# Altium integrated library Xilinx Spartan-II.IntLib: 120 symbols (part 4 of 14)
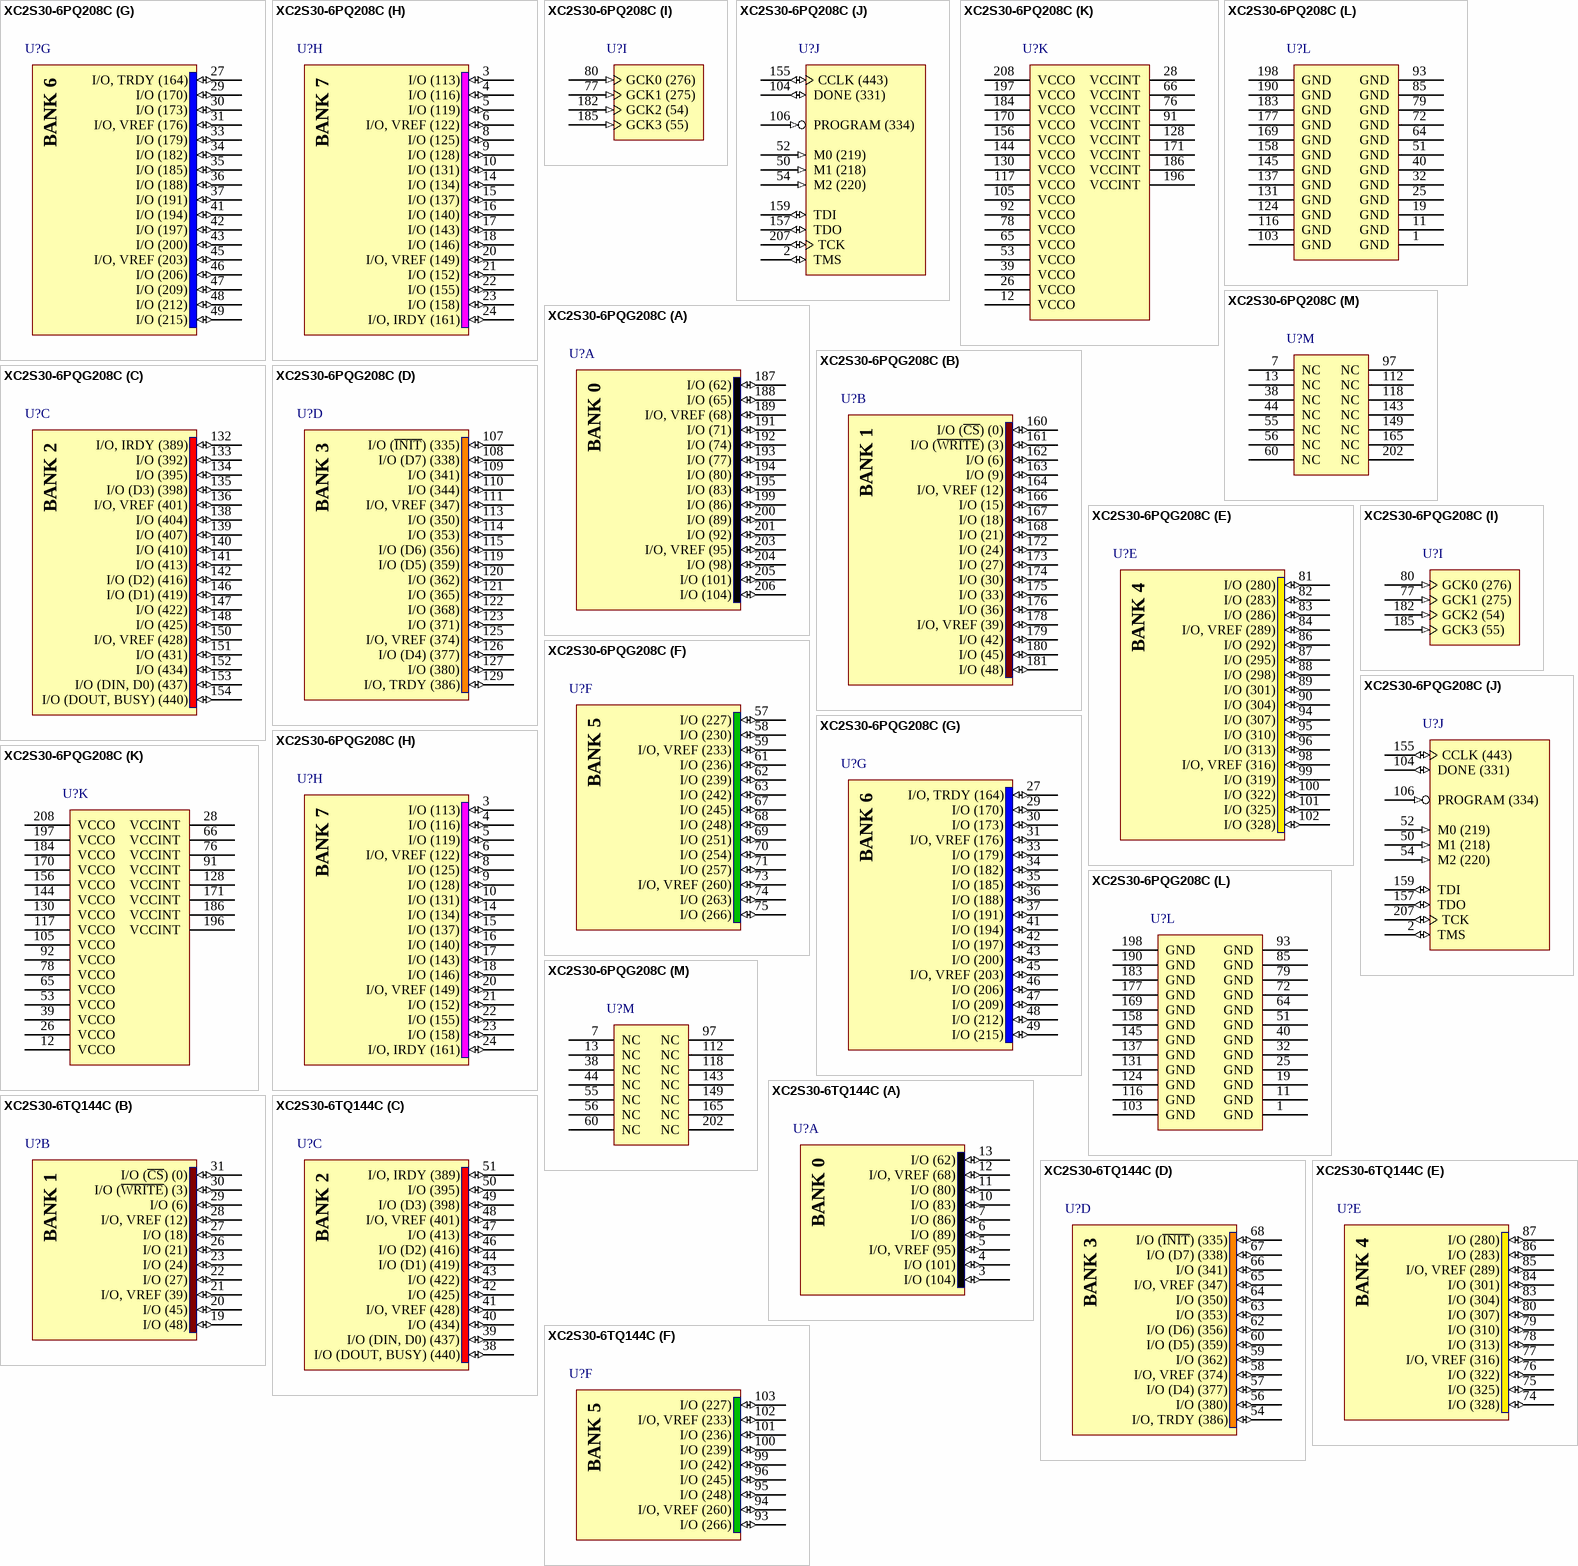
[diagram p73: symbols XC2S30-6PQ208C to XC2S30-6TQ144C]

## XC2S30-6PQG208C
designator U?
Spartan-II 2.5V FPGA, 208-Pin PQFP, Higher Performance, Commercial Grade, Pb-Free; Published: 2-Mar-2006; DatasheetVersion: Aug-2004; PackageVersion: ver1.2, Jun-2004; PackageReference: PQG208; Publisher: Altium Limited; PackageDescription: 208-Pin Plastic Quad Flat Pack (PQG208) - Pb-Free; Code_JEDEC: MS-029-FA-1; ComponentLink1Description: Manufacturer Link; ComponentLink1URL: http://www.xilinx.com/products/silicon_solutions/fpgas/spartan_series/spartan2_fpgas/index.htm; ComponentLink2Description: Datasheet; ComponentLink2URL: http://direct.xilinx.com/bvdocs/publications/ds001.pdf
footprint PQG208_N (Shrink QFP, 208-Leads, Body 28x28mm, Pitch 0.5mm, IPC Medium Density)
footprint PQG208_L (Shrink QFP, 208-Leads, Body 28x28mm, Pitch 0.5mm, IPC High Density)
footprint PQG208_M (Shrink QFP, 208-Leads, Body 28x28mm, Pitch 0.5mm, IPC Low Density)
3D model XC2S30-PQ208 (208-Pin Plastic Quad Flat Pack (PQG208) - Pb-Free)
signal-integrity model XC2S30_PQG208 (Spartan-II)
part A pins: 187 I/O (62) (io), 188 I/O (65) (io), 189 I/O, VREF (68) (io), 191 I/O (71) (io), 192 I/O (74) (io), 193 I/O (77) (io), 194 I/O (80) (io), 195 I/O (83) (io), 199 I/O (86) (io), 200 I/O (89) (io), 201 I/O (92) (io), 203 I/O, VREF (95) (io), 204 I/O (98) (io), 205 I/O (101) (io), 206 I/O (104) (io)
part B pins: 160 I/O (~{CS}) (0) (io), 161 I/O (~{WRITE}) (3) (io), 162 I/O (6) (io), 163 I/O (9) (io), 164 I/O, VREF (12) (io), 166 I/O (15) (io), 167 I/O (18) (io), 168 I/O (21) (io), 172 I/O (24) (io), 173 I/O (27) (io), 174 I/O (30) (io), 175 I/O (33) (io), 176 I/O (36) (io), 178 I/O, VREF (39) (io), 179 I/O (42) (io), 180 I/O (45) (io), 181 I/O (48) (io)
part C pins: 132 I/O, IRDY (389) (io), 133 I/O (392) (io), 134 I/O (395) (io), 135 I/O (D3) (398) (io), 136 I/O, VREF (401) (io), 138 I/O (404) (io), 139 I/O (407) (io), 140 I/O (410) (io), 141 I/O (413) (io), 142 I/O (D2) (416) (io), 146 I/O (D1) (419) (io), 147 I/O (422) (io), 148 I/O (425) (io), 150 I/O, VREF (428) (io), 151 I/O (431) (io), 152 I/O (434) (io), 153 I/O (DIN, D0) (437) (io), 154 I/O (DOUT, BUSY) (440) (io)
part D pins: 107 I/O (~{INIT}) (335) (io), 108 I/O (D7) (338) (io), 109 I/O (341) (io), 110 I/O (344) (io), 111 I/O, VREF (347) (io), 113 I/O (350) (io), 114 I/O (353) (io), 115 I/O (D6) (356) (io), 119 I/O (D5) (359) (io), 120 I/O (362) (io), 121 I/O (365) (io), 122 I/O (368) (io), 123 I/O (371) (io), 125 I/O, VREF (374) (io), 126 I/O (D4) (377) (io), 127 I/O (380) (io), 129 I/O, TRDY (386) (io)
part E pins: 81 I/O (280) (io), 82 I/O (283) (io), 83 I/O (286) (io), 84 I/O, VREF (289) (io), 86 I/O (292) (io), 87 I/O (295) (io), 88 I/O (298) (io), 89 I/O (301) (io), 90 I/O (304) (io), 94 I/O (307) (io), 95 I/O (310) (io), 96 I/O (313) (io), 98 I/O, VREF (316) (io), 99 I/O (319) (io), 100 I/O (322) (io), 101 I/O (325) (io), 102 I/O (328) (io)
part F pins: 57 I/O (227) (io), 58 I/O (230) (io), 59 I/O, VREF (233) (io), 61 I/O (236) (io), 62 I/O (239) (io), 63 I/O (242) (io), 67 I/O (245) (io), 68 I/O (248) (io), 69 I/O (251) (io), 70 I/O (254) (io), 71 I/O (257) (io), 73 I/O, VREF (260) (io), 74 I/O (263) (io), 75 I/O (266) (io)
part G pins: 27 I/O, TRDY (164) (io), 29 I/O (170) (io), 30 I/O (173) (io), 31 I/O, VREF (176) (io), 33 I/O (179) (io), 34 I/O (182) (io), 35 I/O (185) (io), 36 I/O (188) (io), 37 I/O (191) (io), 41 I/O (194) (io), 42 I/O (197) (io), 43 I/O (200) (io), 45 I/O, VREF (203) (io), 46 I/O (206) (io), 47 I/O (209) (io), 48 I/O (212) (io), 49 I/O (215) (io)
part H pins: 3 I/O (113) (io), 4 I/O (116) (io), 5 I/O (119) (io), 6 I/O, VREF (122) (io), 8 I/O (125) (io), 9 I/O (128) (io), 10 I/O (131) (io), 14 I/O (134) (io), 15 I/O (137) (io), 16 I/O (140) (io), 17 I/O (143) (io), 18 I/O (146) (io), 20 I/O, VREF (149) (io), 21 I/O (152) (io), 22 I/O (155) (io), 23 I/O (158) (io), 24 I/O, IRDY (161) (io)
part I pins: 77 GCK1 (275) (in), 80 GCK0 (276) (in), 182 GCK2 (54) (in), 185 GCK3 (55) (in)
part J pins: 2 TMS (io), 50 M1 (218) (in), 52 M0 (219) (in), 54 M2 (220) (in), 104 DONE (331) (io), 106 PROGRAM (334) (in), 155 CCLK (443) (io), 157 TDO (io), 159 TDI (io), 207 TCK (io)
part K pins: 12 VCCO (power), 26 VCCO (power), 28 VCCINT (power), 39 VCCO (power), 53 VCCO (power), 65 VCCO (power), 66 VCCINT (power), 76 VCCINT (power), 78 VCCO (power), 91 VCCINT (power), 92 VCCO (power), 105 VCCO (power), 117 VCCO (power), 128 VCCINT (power), 130 VCCO (power), 144 VCCO (power), 156 VCCO (power), 170 VCCO (power), 171 VCCINT (power), 184 VCCO (power), 186 VCCINT (power), 196 VCCINT (power), 197 VCCO (power), 208 VCCO (power)
part L pins: 1 GND (power), 11 GND (power), 19 GND (power), 25 GND (power), 32 GND (power), 40 GND (power), 51 GND (power), 64 GND (power), 72 GND (power), 79 GND (power), 85 GND (power), 93 GND (power), 103 GND (power), 116 GND (power), 124 GND (power), 131 GND (power), 137 GND (power), 145 GND (power), 158 GND (power), 169 GND (power), 177 GND (power), 183 GND (power), 190 GND (power), 198 GND (power)
part M pins: 7 NC, 13 NC, 38 NC, 44 NC, 55 NC, 56 NC, 60 NC, 97 NC, 112 NC, 118 NC, 143 NC, 149 NC, 165 NC, 202 NC
part A text: BANK 0
part B text: BANK 1
part C text: BANK 2
part D text: BANK 3
part E text: BANK 4
part F text: BANK 5
part G text: BANK 6
part H text: BANK 7

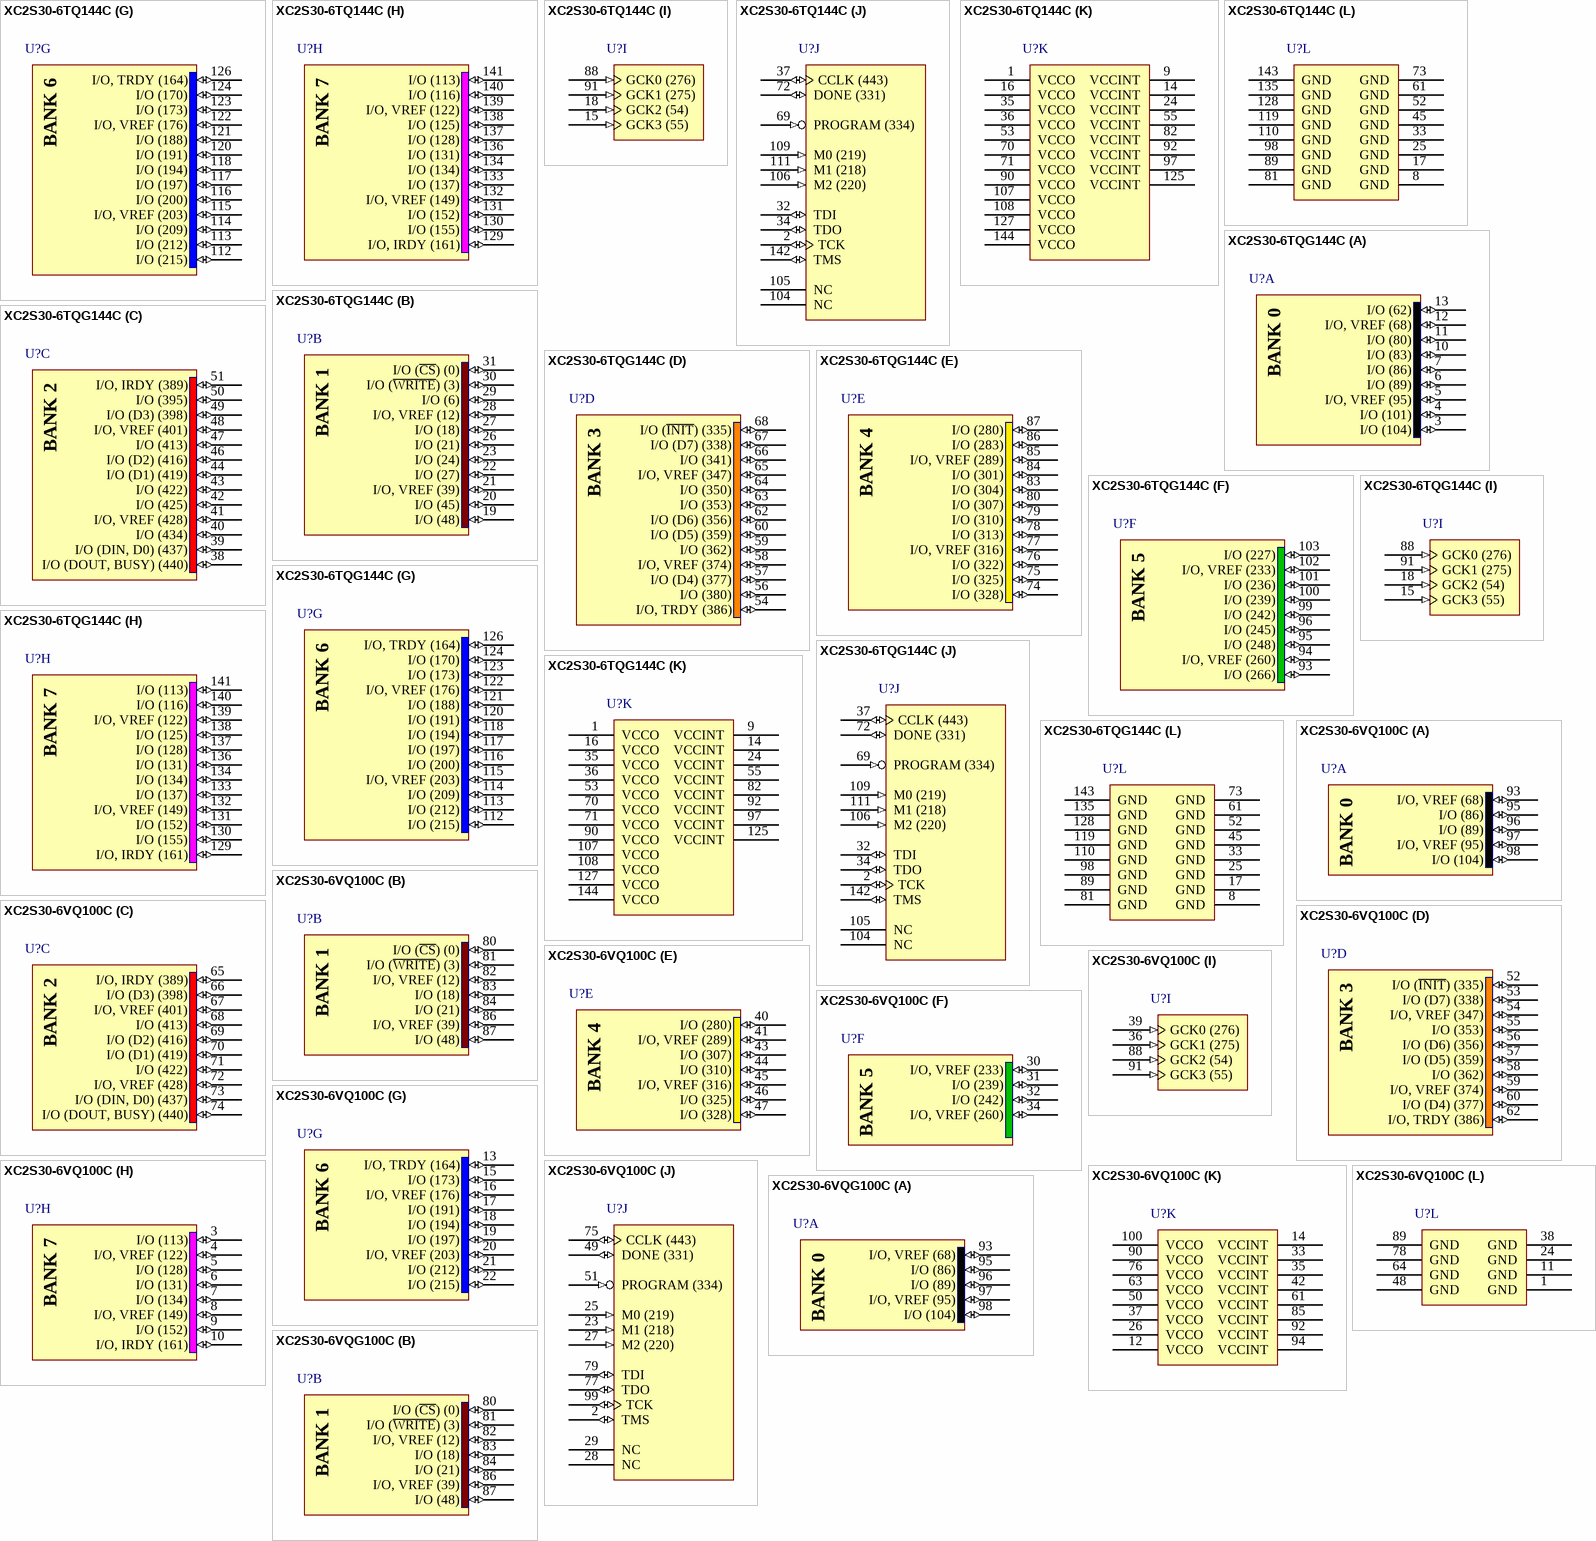
[diagram p16: symbols XC2S30-6TQ144C to XC2S30-6VQG100C]

## XC2S30-6TQ144C
designator U?
Spartan-II 2.5V FPGA, 144-Pin TQFP, Higher Performance, Commercial Grade; Published: 13-Jul-2001; LatestRevisionDate: 13-Apr-2006; LatestRevisionNote: IPC-7351 Footprint Added.; DatasheetVersion: Aug-2004; PackageVersion: ver1.2, Jun-2004; PackageReference: TQ144; Publisher: Altium Limited; PackageDescription: 144-Pin Thin Quad Flat Pack (TQ144); Code_JEDEC: MS-026-BFB; ComponentLink1Description: Manufacturer Link; ComponentLink1URL: http://www.xilinx.com/products/silicon_solutions/fpgas/spartan_series/spartan2_fpgas/index.htm; ComponentLink2Description: Datasheet; ComponentLink2URL: http://direct.xilinx.com/bvdocs/publications/ds001.pdf
footprint TQ144_N (Thin QFP, 144-Leads, Body 20x20mm, Pitch 0.5mm, IPC Medium Density)
footprint TQ144_L (Thin QFP, 144-Leads, Body 20x20mm, Pitch 0.5mm, IPC High Density)
footprint TQ144_M (Thin QFP, 144-Leads, Body 20x20mm, Pitch 0.5mm, IPC Low Density)
3D model XC2S30-TQ144 (144-Pin Thin Quad Flat Pack (TQ144))
signal-integrity model XC2S30_TQ144 (Spartan-II)
part A pins: 3 I/O (104) (io), 4 I/O (101) (io), 5 I/O, VREF (95) (io), 6 I/O (89) (io), 7 I/O (86) (io), 10 I/O (83) (io), 11 I/O (80) (io), 12 I/O, VREF (68) (io), 13 I/O (62) (io)
part B pins: 19 I/O (48) (io), 20 I/O (45) (io), 21 I/O, VREF (39) (io), 22 I/O (27) (io), 23 I/O (24) (io), 26 I/O (21) (io), 27 I/O (18) (io), 28 I/O, VREF (12) (io), 29 I/O (6) (io), 30 I/O (~{WRITE}) (3) (io), 31 I/O (~{CS}) (0) (io)
part C pins: 38 I/O (DOUT, BUSY) (440) (io), 39 I/O (DIN, D0) (437) (io), 40 I/O (434) (io), 41 I/O, VREF (428) (io), 42 I/O (425) (io), 43 I/O (422) (io), 44 I/O (D1) (419) (io), 46 I/O (D2) (416) (io), 47 I/O (413) (io), 48 I/O, VREF (401) (io), 49 I/O (D3) (398) (io), 50 I/O (395) (io), 51 I/O, IRDY (389) (io)
part D pins: 54 I/O, TRDY (386) (io), 56 I/O (380) (io), 57 I/O (D4) (377) (io), 58 I/O, VREF (374) (io), 59 I/O (362) (io), 60 I/O (D5) (359) (io), 62 I/O (D6) (356) (io), 63 I/O (353) (io), 64 I/O (350) (io), 65 I/O, VREF (347) (io), 66 I/O (341) (io), 67 I/O (D7) (338) (io), 68 I/O (~{INIT}) (335) (io)
part E pins: 74 I/O (328) (io), 75 I/O (325) (io), 76 I/O (322) (io), 77 I/O, VREF (316) (io), 78 I/O (313) (io), 79 I/O (310) (io), 80 I/O (307) (io), 83 I/O (304) (io), 84 I/O (301) (io), 85 I/O, VREF (289) (io), 86 I/O (283) (io), 87 I/O (280) (io)
part F pins: 93 I/O (266) (io), 94 I/O, VREF (260) (io), 95 I/O (248) (io), 96 I/O (245) (io), 99 I/O (242) (io), 100 I/O (239) (io), 101 I/O (236) (io), 102 I/O, VREF (233) (io), 103 I/O (227) (io)
part G pins: 112 I/O (215) (io), 113 I/O (212) (io), 114 I/O (209) (io), 115 I/O, VREF (203) (io), 116 I/O (200) (io), 117 I/O (197) (io), 118 I/O (194) (io), 120 I/O (191) (io), 121 I/O (188) (io), 122 I/O, VREF (176) (io), 123 I/O (173) (io), 124 I/O (170) (io), 126 I/O, TRDY (164) (io)
part H pins: 129 I/O, IRDY (161) (io), 130 I/O (155) (io), 131 I/O (152) (io), 132 I/O, VREF (149) (io), 133 I/O (137) (io), 134 I/O (134) (io), 136 I/O (131) (io), 137 I/O (128) (io), 138 I/O (125) (io), 139 I/O, VREF (122) (io), 140 I/O (116) (io), 141 I/O (113) (io)
part I pins: 15 GCK3 (55) (in), 18 GCK2 (54) (in), 88 GCK0 (276) (in), 91 GCK1 (275) (in)
part J pins: 2 TCK (io), 32 TDI (io), 34 TDO (io), 37 CCLK (443) (io), 69 PROGRAM (334) (in), 72 DONE (331) (io), 104 NC, 105 NC, 106 M2 (220) (in), 109 M0 (219) (in), 111 M1 (218) (in), 142 TMS (io)
part K pins: 1 VCCO (power), 9 VCCINT (power), 14 VCCINT (power), 16 VCCO (power), 24 VCCINT (power), 35 VCCO (power), 36 VCCO (power), 53 VCCO (power), 55 VCCINT (power), 70 VCCO (power), 71 VCCO (power), 82 VCCINT (power), 90 VCCO (power), 92 VCCINT (power), 97 VCCINT (power), 107 VCCO (power), 108 VCCO (power), 125 VCCINT (power), 127 VCCO (power), 144 VCCO (power)
part L pins: 8 GND (power), 17 GND (power), 25 GND (power), 33 GND (power), 45 GND (power), 52 GND (power), 61 GND (power), 73 GND (power), 81 GND (power), 89 GND (power), 98 GND (power), 110 GND (power), 119 GND (power), 128 GND (power), 135 GND (power), 143 GND (power)
part A text: BANK 0
part B text: BANK 1
part C text: BANK 2
part D text: BANK 3
part E text: BANK 4
part F text: BANK 5
part G text: BANK 6
part H text: BANK 7

## XC2S30-6TQG144C
designator U?
Spartan-II 2.5V FPGA, 144-Pin TQFP, Higher Performance, Commercial Grade, Pb-Free; Published: 2-Mar-2006; DatasheetVersion: Aug-2004; PackageVersion: ver1.2, Jun-2004; PackageReference: TQG144; Publisher: Altium Limited; PackageDescription: 144-Pin Thin Quad Flat Pack (TQG144) - Pb-Free; Code_JEDEC: MS-026-BFB; ComponentLink1Description: Manufacturer Link; ComponentLink1URL: http://www.xilinx.com/products/silicon_solutions/fpgas/spartan_series/spartan2_fpgas/index.htm; ComponentLink2Description: Datasheet; ComponentLink2URL: http://direct.xilinx.com/bvdocs/publications/ds001.pdf
footprint TQG144_N (Thin QFP, 144-Leads, Body 20x20mm, Pitch 0.5mm, IPC Medium Density)
footprint TQG144_L (Thin QFP, 144-Leads, Body 20x20mm, Pitch 0.5mm, IPC High Density)
footprint TQG144_M (Thin QFP, 144-Leads, Body 20x20mm, Pitch 0.5mm, IPC Low Density)
3D model XC2S30-TQ144 (144-Pin Thin Quad Flat Pack (TQG144) - Pb-Free)
signal-integrity model XC2S30_TQG144 (Spartan-II)
part A pins: 3 I/O (104) (io), 4 I/O (101) (io), 5 I/O, VREF (95) (io), 6 I/O (89) (io), 7 I/O (86) (io), 10 I/O (83) (io), 11 I/O (80) (io), 12 I/O, VREF (68) (io), 13 I/O (62) (io)
part B pins: 19 I/O (48) (io), 20 I/O (45) (io), 21 I/O, VREF (39) (io), 22 I/O (27) (io), 23 I/O (24) (io), 26 I/O (21) (io), 27 I/O (18) (io), 28 I/O, VREF (12) (io), 29 I/O (6) (io), 30 I/O (~{WRITE}) (3) (io), 31 I/O (~{CS}) (0) (io)
part C pins: 38 I/O (DOUT, BUSY) (440) (io), 39 I/O (DIN, D0) (437) (io), 40 I/O (434) (io), 41 I/O, VREF (428) (io), 42 I/O (425) (io), 43 I/O (422) (io), 44 I/O (D1) (419) (io), 46 I/O (D2) (416) (io), 47 I/O (413) (io), 48 I/O, VREF (401) (io), 49 I/O (D3) (398) (io), 50 I/O (395) (io), 51 I/O, IRDY (389) (io)
part D pins: 54 I/O, TRDY (386) (io), 56 I/O (380) (io), 57 I/O (D4) (377) (io), 58 I/O, VREF (374) (io), 59 I/O (362) (io), 60 I/O (D5) (359) (io), 62 I/O (D6) (356) (io), 63 I/O (353) (io), 64 I/O (350) (io), 65 I/O, VREF (347) (io), 66 I/O (341) (io), 67 I/O (D7) (338) (io), 68 I/O (~{INIT}) (335) (io)
part E pins: 74 I/O (328) (io), 75 I/O (325) (io), 76 I/O (322) (io), 77 I/O, VREF (316) (io), 78 I/O (313) (io), 79 I/O (310) (io), 80 I/O (307) (io), 83 I/O (304) (io), 84 I/O (301) (io), 85 I/O, VREF (289) (io), 86 I/O (283) (io), 87 I/O (280) (io)
part F pins: 93 I/O (266) (io), 94 I/O, VREF (260) (io), 95 I/O (248) (io), 96 I/O (245) (io), 99 I/O (242) (io), 100 I/O (239) (io), 101 I/O (236) (io), 102 I/O, VREF (233) (io), 103 I/O (227) (io)
part G pins: 112 I/O (215) (io), 113 I/O (212) (io), 114 I/O (209) (io), 115 I/O, VREF (203) (io), 116 I/O (200) (io), 117 I/O (197) (io), 118 I/O (194) (io), 120 I/O (191) (io), 121 I/O (188) (io), 122 I/O, VREF (176) (io), 123 I/O (173) (io), 124 I/O (170) (io), 126 I/O, TRDY (164) (io)
part H pins: 129 I/O, IRDY (161) (io), 130 I/O (155) (io), 131 I/O (152) (io), 132 I/O, VREF (149) (io), 133 I/O (137) (io), 134 I/O (134) (io), 136 I/O (131) (io), 137 I/O (128) (io), 138 I/O (125) (io), 139 I/O, VREF (122) (io), 140 I/O (116) (io), 141 I/O (113) (io)
part I pins: 15 GCK3 (55) (in), 18 GCK2 (54) (in), 88 GCK0 (276) (in), 91 GCK1 (275) (in)
part J pins: 2 TCK (io), 32 TDI (io), 34 TDO (io), 37 CCLK (443) (io), 69 PROGRAM (334) (in), 72 DONE (331) (io), 104 NC, 105 NC, 106 M2 (220) (in), 109 M0 (219) (in), 111 M1 (218) (in), 142 TMS (io)
part K pins: 1 VCCO (power), 9 VCCINT (power), 14 VCCINT (power), 16 VCCO (power), 24 VCCINT (power), 35 VCCO (power), 36 VCCO (power), 53 VCCO (power), 55 VCCINT (power), 70 VCCO (power), 71 VCCO (power), 82 VCCINT (power), 90 VCCO (power), 92 VCCINT (power), 97 VCCINT (power), 107 VCCO (power), 108 VCCO (power), 125 VCCINT (power), 127 VCCO (power), 144 VCCO (power)
part L pins: 8 GND (power), 17 GND (power), 25 GND (power), 33 GND (power), 45 GND (power), 52 GND (power), 61 GND (power), 73 GND (power), 81 GND (power), 89 GND (power), 98 GND (power), 110 GND (power), 119 GND (power), 128 GND (power), 135 GND (power), 143 GND (power)
part A text: BANK 0
part B text: BANK 1
part C text: BANK 2
part D text: BANK 3
part E text: BANK 4
part F text: BANK 5
part G text: BANK 6
part H text: BANK 7

## XC2S30-6VQ100C
designator U?
Spartan-II 2.5V FPGA, 100-Pin VQFP, Higher Performance, Commercial Grade; Published: 13-Jul-2001; LatestRevisionDate: 13-Apr-2006; LatestRevisionNote: IPC-7351 Footprint Added.; DatasheetVersion: Aug-2004; PackageVersion: ver1.2, Jun-2004; PackageReference: VQ100; Publisher: Altium Limited; PackageDescription: 100-Pin Very Thin Quad Flat Pack (VQ100); Code_JEDEC: MS-026-AED; ComponentLink1Description: Manufacturer Link; ComponentLink1URL: http://www.xilinx.com/products/silicon_solutions/fpgas/spartan_series/spartan2_fpgas/index.htm; ComponentLink2Description: Datasheet; ComponentLink2URL: http://direct.xilinx.com/bvdocs/publications/ds001.pdf
footprint VQ100_N (Thin QFP, 100-Leads, Body 14x14mm, Pitch 0.5mm, IPC Medium Density)
footprint VQ100_L (Thin QFP, 100-Leads, Body 14x14mm, Pitch 0.5mm, IPC High Density)
footprint VQ100_M (Thin QFP, 100-Leads, Body 14x14mm, Pitch 0.5mm, IPC Low Density)
3D model XC2S30-VQ100 (100-Pin Very Thin Quad Flat Pack (VQ100))
signal-integrity model XC2S30_VQ100 (Spartan-II)
part A pins: 93 I/O, VREF (68) (io), 95 I/O (86) (io), 96 I/O (89) (io), 97 I/O, VREF (95) (io), 98 I/O (104) (io)
part B pins: 80 I/O (~{CS}) (0) (io), 81 I/O (~{WRITE}) (3) (io), 82 I/O, VREF (12) (io), 83 I/O (18) (io), 84 I/O (21) (io), 86 I/O, VREF (39) (io), 87 I/O (48) (io)
part C pins: 65 I/O, IRDY (389) (io), 66 I/O (D3) (398) (io), 67 I/O, VREF (401) (io), 68 I/O (413) (io), 69 I/O (D2) (416) (io), 70 I/O (D1) (419) (io), 71 I/O (422) (io), 72 I/O, VREF (428) (io), 73 I/O (DIN, D0) (437) (io), 74 I/O (DOUT, BUSY) (440) (io)
part D pins: 52 I/O (~{INIT}) (335) (io), 53 I/O (D7) (338) (io), 54 I/O, VREF (347) (io), 55 I/O (353) (io), 56 I/O (D6) (356) (io), 57 I/O (D5) (359) (io), 58 I/O (362) (io), 59 I/O, VREF (374) (io), 60 I/O (D4) (377) (io), 62 I/O, TRDY (386) (io)
part E pins: 40 I/O (280) (io), 41 I/O, VREF (289) (io), 43 I/O (307) (io), 44 I/O (310) (io), 45 I/O, VREF (316) (io), 46 I/O (325) (io), 47 I/O (328) (io)
part F pins: 30 I/O, VREF (233) (io), 31 I/O (239) (io), 32 I/O (242) (io), 34 I/O, VREF (260) (io)
part G pins: 13 I/O, TRDY (164) (io), 15 I/O (173) (io), 16 I/O, VREF (176) (io), 17 I/O (191) (io), 18 I/O (194) (io), 19 I/O (197) (io), 20 I/O, VREF (203) (io), 21 I/O (212) (io), 22 I/O (215) (io)
part H pins: 3 I/O (113) (io), 4 I/O, VREF (122) (io), 5 I/O (128) (io), 6 I/O (131) (io), 7 I/O (134) (io), 8 I/O, VREF (149) (io), 9 I/O (152) (io), 10 I/O, IRDY (161) (io)
part I pins: 36 GCK1 (275) (in), 39 GCK0 (276) (in), 88 GCK2 (54) (in), 91 GCK3 (55) (in)
part J pins: 2 TMS (io), 23 M1 (218) (in), 25 M0 (219) (in), 27 M2 (220) (in), 28 NC, 29 NC, 49 DONE (331) (io), 51 PROGRAM (334) (in), 75 CCLK (443) (io), 77 TDO (io), 79 TDI (io), 99 TCK (io)
part K pins: 12 VCCO (power), 14 VCCINT (power), 26 VCCO (power), 33 VCCINT (power), 35 VCCINT (power), 37 VCCO (power), 42 VCCINT (power), 50 VCCO (power), 61 VCCINT (power), 63 VCCO (power), 76 VCCO (power), 85 VCCINT (power), 90 VCCO (power), 92 VCCINT (power), 94 VCCINT (power), 100 VCCO (power)
part L pins: 1 GND (power), 11 GND (power), 24 GND (power), 38 GND (power), 48 GND (power), 64 GND (power), 78 GND (power), 89 GND (power)
part A text: BANK 0
part B text: BANK 1
part C text: BANK 2
part D text: BANK 3
part E text: BANK 4
part F text: BANK 5
part G text: BANK 6
part H text: BANK 7

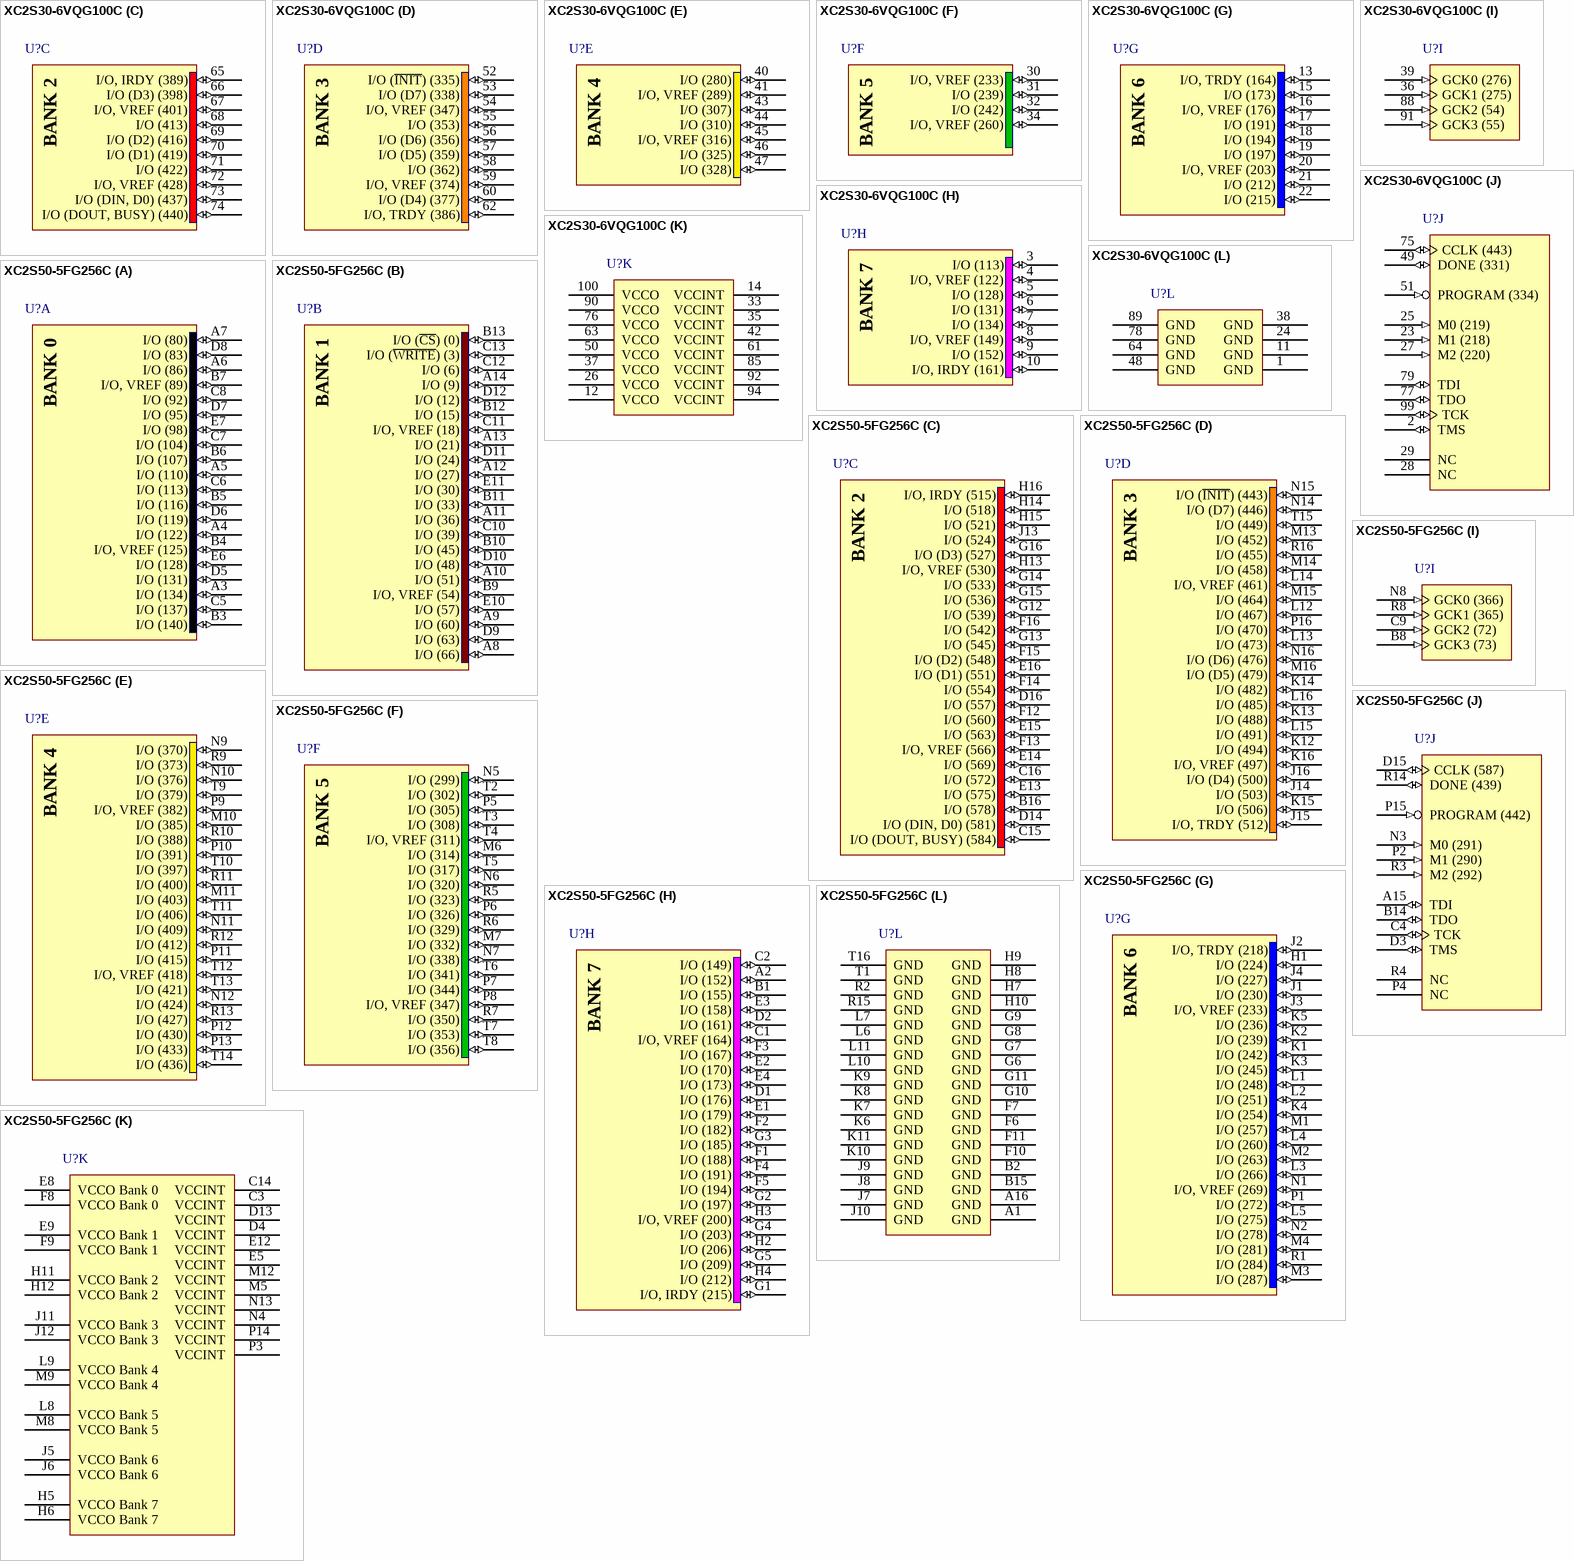
[diagram p17: symbols XC2S30-6VQG100C to XC2S50-5FG256C]

## XC2S30-6VQG100C
designator U?
Spartan-II 2.5V FPGA, 100-Pin VQFP, Higher Performance, Commercial Grade, Pb-Free; Published: 2-Mar-2006; DatasheetVersion: Aug-2004; PackageVersion: ver1.2, Jun-2004; PackageReference: VQG100; Publisher: Altium Limited; PackageDescription: 100-Pin Very Thin Quad Flat Pack (VQG100) - Pb-Free; Code_JEDEC: MS-026-AED; ComponentLink1Description: Manufacturer Link; ComponentLink1URL: http://www.xilinx.com/products/silicon_solutions/fpgas/spartan_series/spartan2_fpgas/index.htm; ComponentLink2Description: Datasheet; ComponentLink2URL: http://direct.xilinx.com/bvdocs/publications/ds001.pdf
footprint VQG100_N (Thin QFP, 100-Leads, Body 14x14mm, Pitch 0.5mm, IPC Medium Density)
footprint VQG100_L (Thin QFP, 100-Leads, Body 14x14mm, Pitch 0.5mm, IPC High Density)
footprint VQG100_M (Thin QFP, 100-Leads, Body 14x14mm, Pitch 0.5mm, IPC Low Density)
3D model XC2S30-VQ100 (100-Pin Very Thin Quad Flat Pack (VQG100) - Pb-Free)
signal-integrity model XC2S30_VQG100 (Spartan-II)
part A pins: 93 I/O, VREF (68) (io), 95 I/O (86) (io), 96 I/O (89) (io), 97 I/O, VREF (95) (io), 98 I/O (104) (io)
part B pins: 80 I/O (~{CS}) (0) (io), 81 I/O (~{WRITE}) (3) (io), 82 I/O, VREF (12) (io), 83 I/O (18) (io), 84 I/O (21) (io), 86 I/O, VREF (39) (io), 87 I/O (48) (io)
part C pins: 65 I/O, IRDY (389) (io), 66 I/O (D3) (398) (io), 67 I/O, VREF (401) (io), 68 I/O (413) (io), 69 I/O (D2) (416) (io), 70 I/O (D1) (419) (io), 71 I/O (422) (io), 72 I/O, VREF (428) (io), 73 I/O (DIN, D0) (437) (io), 74 I/O (DOUT, BUSY) (440) (io)
part D pins: 52 I/O (~{INIT}) (335) (io), 53 I/O (D7) (338) (io), 54 I/O, VREF (347) (io), 55 I/O (353) (io), 56 I/O (D6) (356) (io), 57 I/O (D5) (359) (io), 58 I/O (362) (io), 59 I/O, VREF (374) (io), 60 I/O (D4) (377) (io), 62 I/O, TRDY (386) (io)
part E pins: 40 I/O (280) (io), 41 I/O, VREF (289) (io), 43 I/O (307) (io), 44 I/O (310) (io), 45 I/O, VREF (316) (io), 46 I/O (325) (io), 47 I/O (328) (io)
part F pins: 30 I/O, VREF (233) (io), 31 I/O (239) (io), 32 I/O (242) (io), 34 I/O, VREF (260) (io)
part G pins: 13 I/O, TRDY (164) (io), 15 I/O (173) (io), 16 I/O, VREF (176) (io), 17 I/O (191) (io), 18 I/O (194) (io), 19 I/O (197) (io), 20 I/O, VREF (203) (io), 21 I/O (212) (io), 22 I/O (215) (io)
part H pins: 3 I/O (113) (io), 4 I/O, VREF (122) (io), 5 I/O (128) (io), 6 I/O (131) (io), 7 I/O (134) (io), 8 I/O, VREF (149) (io), 9 I/O (152) (io), 10 I/O, IRDY (161) (io)
part I pins: 36 GCK1 (275) (in), 39 GCK0 (276) (in), 88 GCK2 (54) (in), 91 GCK3 (55) (in)
part J pins: 2 TMS (io), 23 M1 (218) (in), 25 M0 (219) (in), 27 M2 (220) (in), 28 NC, 29 NC, 49 DONE (331) (io), 51 PROGRAM (334) (in), 75 CCLK (443) (io), 77 TDO (io), 79 TDI (io), 99 TCK (io)
part K pins: 12 VCCO (power), 14 VCCINT (power), 26 VCCO (power), 33 VCCINT (power), 35 VCCINT (power), 37 VCCO (power), 42 VCCINT (power), 50 VCCO (power), 61 VCCINT (power), 63 VCCO (power), 76 VCCO (power), 85 VCCINT (power), 90 VCCO (power), 92 VCCINT (power), 94 VCCINT (power), 100 VCCO (power)
part L pins: 1 GND (power), 11 GND (power), 24 GND (power), 38 GND (power), 48 GND (power), 64 GND (power), 78 GND (power), 89 GND (power)
part A text: BANK 0
part B text: BANK 1
part C text: BANK 2
part D text: BANK 3
part E text: BANK 4
part F text: BANK 5
part G text: BANK 6
part H text: BANK 7

## XC2S50-5FG256C
designator U?
Spartan-II 2.5V FPGA, 256-Ball FBGA, Standard Performance, Commercial Grade; Published: 13-Jul-2001; LatestRevisionDate: 13-Apr-2006; LatestRevisionNote: IPC-7351 Footprint Added.; DatasheetVersion: Aug-2004; PackageVersion: ver1.2.1, Apr-2005; PackageReference: FG256; Publisher: Altium Limited; PackageDescription: 256-Ball Fine Pitch Ball Grid Array (FG256); Code_JEDEC: MO-151-AAF-1; Code_IPC: BGA100P16X16-256; ComponentLink1Description: Manufacturer Link; ComponentLink1URL: http://www.xilinx.com/products/silicon_solutions/fpgas/spartan_series/spartan2_fpgas/index.htm; ComponentLink2Description: Datasheet; ComponentLink2URL: http://direct.xilinx.com/bvdocs/publications/ds001.pdf
footprint FG256 (BGA, 256-Leads, Body 17x17mm, Pitch 1mm)
3D model XC2S50-FG256 (256-Ball Fine Pitch Ball Grid Array (FG256))
signal-integrity model XC2S50_FG256 (Spartan-II)
part A pins: A3 I/O (134) (io), A4 I/O (122) (io), A5 I/O (110) (io), A6 I/O (86) (io), A7 I/O (80) (io), B3 I/O (140) (io), B4 I/O, VREF (125) (io), B5 I/O (116) (io), B6 I/O (107) (io), B7 I/O, VREF (89) (io), C5 I/O (137) (io), C6 I/O (113) (io), C7 I/O (104) (io), C8 I/O (92) (io), D5 I/O (131) (io), D6 I/O (119) (io), D7 I/O (95) (io), D8 I/O (83) (io), E6 I/O (128) (io), E7 I/O (98) (io)
part B pins: A8 I/O (66) (io), A9 I/O (60) (io), A10 I/O (51) (io), A11 I/O (36) (io), A12 I/O (27) (io), A13 I/O (21) (io), A14 I/O (9) (io), B9 I/O, VREF (54) (io), B10 I/O (45) (io), B11 I/O (33) (io), B12 I/O (15) (io), B13 I/O (~{CS}) (0) (io), C10 I/O (39) (io), C11 I/O, VREF (18) (io), C12 I/O (6) (io), C13 I/O (~{WRITE}) (3) (io), D9 I/O (63) (io), D10 I/O (48) (io), D11 I/O (24) (io), D12 I/O (12) (io), E10 I/O (57) (io), E11 I/O (30) (io)
part C pins: B16 I/O (578) (io), C15 I/O (DOUT, BUSY) (584) (io), C16 I/O (572) (io), D14 I/O (DIN, D0) (581) (io), D16 I/O (557) (io), E13 I/O (575) (io), E14 I/O (569) (io), E15 I/O (563) (io), E16 I/O (D1) (551) (io), F12 I/O (560) (io), F13 I/O, VREF (566) (io), F14 I/O (554) (io), F15 I/O (D2) (548) (io), F16 I/O (542) (io), G12 I/O (539) (io), G13 I/O (545) (io), G14 I/O (533) (io), G15 I/O (536) (io), G16 I/O (D3) (527) (io), H13 I/O, VREF (530) (io), H14 I/O (518) (io), H15 I/O (521) (io), H16 I/O, IRDY (515) (io), J13 I/O (524) (io)
part D pins: J14 I/O (503) (io), J15 I/O, TRDY (512) (io), J16 I/O (D4) (500) (io), K12 I/O (494) (io), K13 I/O (488) (io), K14 I/O (482) (io), K15 I/O (506) (io), K16 I/O, VREF (497) (io), L12 I/O (467) (io), L13 I/O (473) (io), L14 I/O, VREF (461) (io), L15 I/O (491) (io), L16 I/O (485) (io), M13 I/O (452) (io), M14 I/O (458) (io), M15 I/O (464) (io), M16 I/O (D5) (479) (io), N14 I/O (D7) (446) (io), N15 I/O (~{INIT}) (443) (io), N16 I/O (D6) (476) (io), P16 I/O (470) (io), R16 I/O (455) (io), T15 I/O (449) (io)
part E pins: M10 I/O (385) (io), M11 I/O (403) (io), N9 I/O (370) (io), N10 I/O (376) (io), N11 I/O (409) (io), N12 I/O (424) (io), P9 I/O, VREF (382) (io), P10 I/O (391) (io), P11 I/O (415) (io), P12 I/O (430) (io), P13 I/O (433) (io), R9 I/O (373) (io), R10 I/O (388) (io), R11 I/O (400) (io), R12 I/O (412) (io), R13 I/O (427) (io), T9 I/O (379) (io), T10 I/O (397) (io), T11 I/O (406) (io), T12 I/O, VREF (418) (io), T13 I/O (421) (io), T14 I/O (436) (io)
part F pins: M6 I/O (314) (io), M7 I/O (332) (io), N5 I/O (299) (io), N6 I/O (320) (io), N7 I/O (338) (io), P5 I/O (305) (io), P6 I/O (326) (io), P7 I/O (344) (io), P8 I/O, VREF (347) (io), R5 I/O (323) (io), R6 I/O (329) (io), R7 I/O (350) (io), T2 I/O (302) (io), T3 I/O (308) (io), T4 I/O, VREF (311) (io), T5 I/O (317) (io), T6 I/O (341) (io), T7 I/O (353) (io), T8 I/O (356) (io)
part G pins: H1 I/O (224) (io), J1 I/O (230) (io), J2 I/O, TRDY (218) (io), J3 I/O, VREF (233) (io), J4 I/O (227) (io), K1 I/O (242) (io), K2 I/O (239) (io), K3 I/O (245) (io), K4 I/O (254) (io), K5 I/O (236) (io), L1 I/O (248) (io), L2 I/O (251) (io), L3 I/O (266) (io), L4 I/O (260) (io), L5 I/O (275) (io), M1 I/O (257) (io), M2 I/O (263) (io), M3 I/O (287) (io), M4 I/O (281) (io), N1 I/O, VREF (269) (io), N2 I/O (278) (io), P1 I/O (272) (io), R1 I/O (284) (io)
part H pins: A2 I/O (152) (io), B1 I/O (155) (io), C1 I/O, VREF (164) (io), C2 I/O (149) (io), D1 I/O (176) (io), D2 I/O (161) (io), E1 I/O (179) (io), E2 I/O (170) (io), E3 I/O (158) (io), E4 I/O (173) (io), F1 I/O (188) (io), F2 I/O (182) (io), F3 I/O (167) (io), F4 I/O (191) (io), F5 I/O (194) (io), G1 I/O, IRDY (215) (io), G2 I/O (197) (io), G3 I/O (185) (io), G4 I/O (203) (io), G5 I/O (209) (io), H2 I/O (206) (io), H3 I/O, VREF (200) (io), H4 I/O (212) (io)
part I pins: B8 GCK3 (73) (in), C9 GCK2 (72) (in), N8 GCK0 (366) (in), R8 GCK1 (365) (in)
part J pins: A15 TDI (io), B14 TDO (io), C4 TCK (io), D3 TMS (io), D15 CCLK (587) (io), N3 M0 (291) (in), P2 M1 (290) (in), P4 NC, P15 PROGRAM (442) (in), R3 M2 (292) (in), R4 NC, R14 DONE (439) (io)
part K pins: C3 VCCINT (power), C14 VCCINT (power), D4 VCCINT (power), D13 VCCINT (power), E5 VCCINT (power), E8 VCCO Bank 0 (power), E9 VCCO Bank 1 (power), E12 VCCINT (power), F8 VCCO Bank 0 (power), F9 VCCO Bank 1 (power), H5 VCCO Bank 7 (power), H6 VCCO Bank 7 (power), H11 VCCO Bank 2 (power), H12 VCCO Bank 2 (power), J5 VCCO Bank 6 (power), J6 VCCO Bank 6 (power), J11 VCCO Bank 3 (power), J12 VCCO Bank 3 (power), L8 VCCO Bank 5 (power), L9 VCCO Bank 4 (power), M5 VCCINT (power), M8 VCCO Bank 5 (power), M9 VCCO Bank 4 (power), M12 VCCINT (power), N4 VCCINT (power), N13 VCCINT (power), P3 VCCINT (power), P14 VCCINT (power)
part L pins: A1 GND (power), A16 GND (power), B2 GND (power), B15 GND (power), F6 GND (power), F7 GND (power), F10 GND (power), F11 GND (power), G6 GND (power), G7 GND (power), G8 GND (power), G9 GND (power), G10 GND (power), G11 GND (power), H7 GND (power), H8 GND (power), H9 GND (power), H10 GND (power), J7 GND (power), J8 GND (power), J9 GND (power), J10 GND (power), K6 GND (power), K7 GND (power), K8 GND (power), K9 GND (power), K10 GND (power), K11 GND (power), L6 GND (power), L7 GND (power), L10 GND (power), L11 GND (power), R2 GND (power), R15 GND (power), T1 GND (power), T16 GND (power)
part A text: BANK 0
part B text: BANK 1
part C text: BANK 2
part D text: BANK 3
part E text: BANK 4
part F text: BANK 5
part G text: BANK 6
part H text: BANK 7

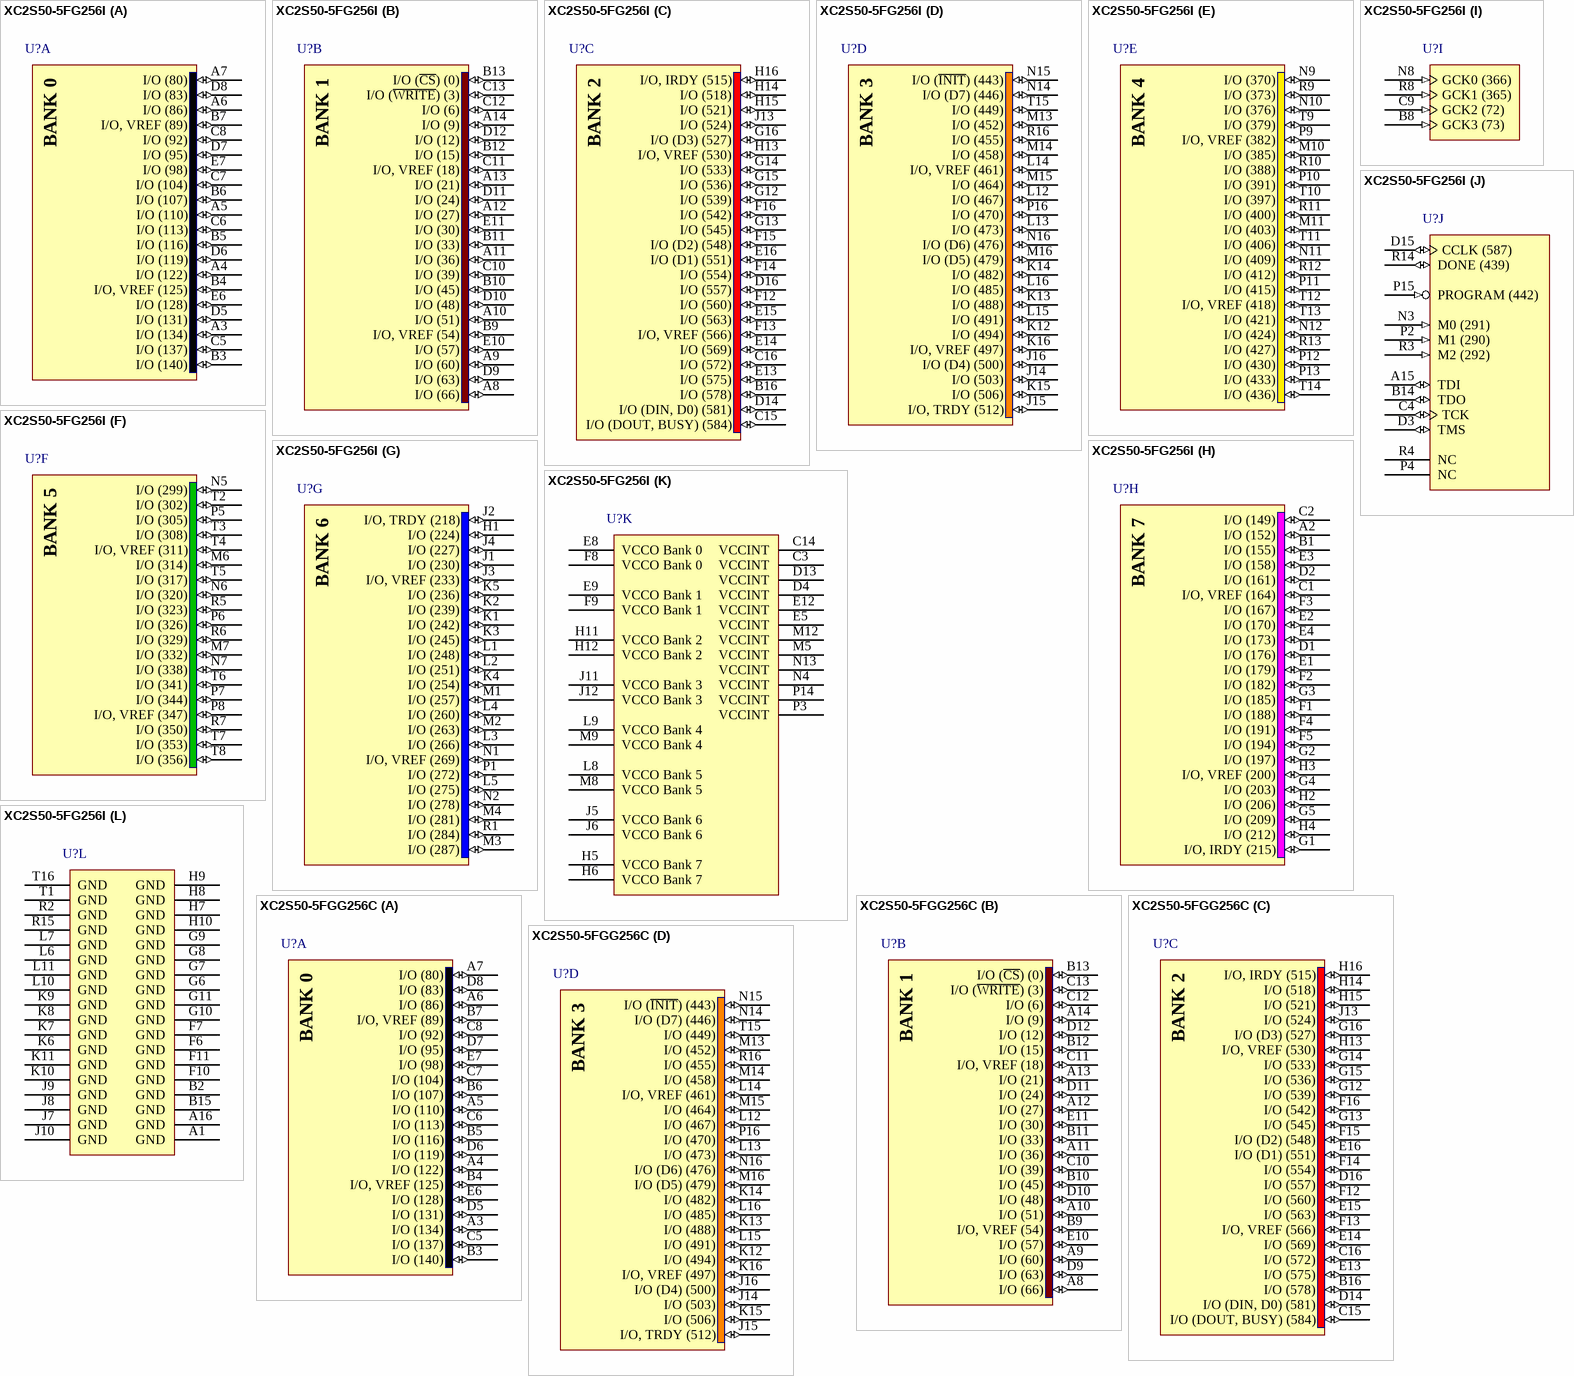
[diagram p18: symbols XC2S50-5FG256I to XC2S50-5FGG256C]

## XC2S50-5FG256I
designator U?
Spartan-II 2.5V FPGA, 256-Ball FBGA, Standard Performance, Industrial Grade; Published: 13-Jul-2001; LatestRevisionDate: 13-Apr-2006; LatestRevisionNote: IPC-7351 Footprint Added.; DatasheetVersion: Aug-2004; PackageVersion: ver1.2.1, Apr-2005; PackageReference: FG256; Publisher: Altium Limited; PackageDescription: 256-Ball Fine Pitch Ball Grid Array (FG256); Code_JEDEC: MO-151-AAF-1; Code_IPC: BGA100P16X16-256; ComponentLink1Description: Manufacturer Link; ComponentLink1URL: http://www.xilinx.com/products/silicon_solutions/fpgas/spartan_series/spartan2_fpgas/index.htm; ComponentLink2Description: Datasheet; ComponentLink2URL: http://direct.xilinx.com/bvdocs/publications/ds001.pdf
footprint FG256 (BGA, 256-Leads, Body 17x17mm, Pitch 1mm)
3D model XC2S50-FG256 (256-Ball Fine Pitch Ball Grid Array (FG256))
signal-integrity model XC2S50_FG256 (Spartan-II)
part A pins: A3 I/O (134) (io), A4 I/O (122) (io), A5 I/O (110) (io), A6 I/O (86) (io), A7 I/O (80) (io), B3 I/O (140) (io), B4 I/O, VREF (125) (io), B5 I/O (116) (io), B6 I/O (107) (io), B7 I/O, VREF (89) (io), C5 I/O (137) (io), C6 I/O (113) (io), C7 I/O (104) (io), C8 I/O (92) (io), D5 I/O (131) (io), D6 I/O (119) (io), D7 I/O (95) (io), D8 I/O (83) (io), E6 I/O (128) (io), E7 I/O (98) (io)
part B pins: A8 I/O (66) (io), A9 I/O (60) (io), A10 I/O (51) (io), A11 I/O (36) (io), A12 I/O (27) (io), A13 I/O (21) (io), A14 I/O (9) (io), B9 I/O, VREF (54) (io), B10 I/O (45) (io), B11 I/O (33) (io), B12 I/O (15) (io), B13 I/O (~{CS}) (0) (io), C10 I/O (39) (io), C11 I/O, VREF (18) (io), C12 I/O (6) (io), C13 I/O (~{WRITE}) (3) (io), D9 I/O (63) (io), D10 I/O (48) (io), D11 I/O (24) (io), D12 I/O (12) (io), E10 I/O (57) (io), E11 I/O (30) (io)
part C pins: B16 I/O (578) (io), C15 I/O (DOUT, BUSY) (584) (io), C16 I/O (572) (io), D14 I/O (DIN, D0) (581) (io), D16 I/O (557) (io), E13 I/O (575) (io), E14 I/O (569) (io), E15 I/O (563) (io), E16 I/O (D1) (551) (io), F12 I/O (560) (io), F13 I/O, VREF (566) (io), F14 I/O (554) (io), F15 I/O (D2) (548) (io), F16 I/O (542) (io), G12 I/O (539) (io), G13 I/O (545) (io), G14 I/O (533) (io), G15 I/O (536) (io), G16 I/O (D3) (527) (io), H13 I/O, VREF (530) (io), H14 I/O (518) (io), H15 I/O (521) (io), H16 I/O, IRDY (515) (io), J13 I/O (524) (io)
part D pins: J14 I/O (503) (io), J15 I/O, TRDY (512) (io), J16 I/O (D4) (500) (io), K12 I/O (494) (io), K13 I/O (488) (io), K14 I/O (482) (io), K15 I/O (506) (io), K16 I/O, VREF (497) (io), L12 I/O (467) (io), L13 I/O (473) (io), L14 I/O, VREF (461) (io), L15 I/O (491) (io), L16 I/O (485) (io), M13 I/O (452) (io), M14 I/O (458) (io), M15 I/O (464) (io), M16 I/O (D5) (479) (io), N14 I/O (D7) (446) (io), N15 I/O (~{INIT}) (443) (io), N16 I/O (D6) (476) (io), P16 I/O (470) (io), R16 I/O (455) (io), T15 I/O (449) (io)
part E pins: M10 I/O (385) (io), M11 I/O (403) (io), N9 I/O (370) (io), N10 I/O (376) (io), N11 I/O (409) (io), N12 I/O (424) (io), P9 I/O, VREF (382) (io), P10 I/O (391) (io), P11 I/O (415) (io), P12 I/O (430) (io), P13 I/O (433) (io), R9 I/O (373) (io), R10 I/O (388) (io), R11 I/O (400) (io), R12 I/O (412) (io), R13 I/O (427) (io), T9 I/O (379) (io), T10 I/O (397) (io), T11 I/O (406) (io), T12 I/O, VREF (418) (io), T13 I/O (421) (io), T14 I/O (436) (io)
part F pins: M6 I/O (314) (io), M7 I/O (332) (io), N5 I/O (299) (io), N6 I/O (320) (io), N7 I/O (338) (io), P5 I/O (305) (io), P6 I/O (326) (io), P7 I/O (344) (io), P8 I/O, VREF (347) (io), R5 I/O (323) (io), R6 I/O (329) (io), R7 I/O (350) (io), T2 I/O (302) (io), T3 I/O (308) (io), T4 I/O, VREF (311) (io), T5 I/O (317) (io), T6 I/O (341) (io), T7 I/O (353) (io), T8 I/O (356) (io)
part G pins: H1 I/O (224) (io), J1 I/O (230) (io), J2 I/O, TRDY (218) (io), J3 I/O, VREF (233) (io), J4 I/O (227) (io), K1 I/O (242) (io), K2 I/O (239) (io), K3 I/O (245) (io), K4 I/O (254) (io), K5 I/O (236) (io), L1 I/O (248) (io), L2 I/O (251) (io), L3 I/O (266) (io), L4 I/O (260) (io), L5 I/O (275) (io), M1 I/O (257) (io), M2 I/O (263) (io), M3 I/O (287) (io), M4 I/O (281) (io), N1 I/O, VREF (269) (io), N2 I/O (278) (io), P1 I/O (272) (io), R1 I/O (284) (io)
part H pins: A2 I/O (152) (io), B1 I/O (155) (io), C1 I/O, VREF (164) (io), C2 I/O (149) (io), D1 I/O (176) (io), D2 I/O (161) (io), E1 I/O (179) (io), E2 I/O (170) (io), E3 I/O (158) (io), E4 I/O (173) (io), F1 I/O (188) (io), F2 I/O (182) (io), F3 I/O (167) (io), F4 I/O (191) (io), F5 I/O (194) (io), G1 I/O, IRDY (215) (io), G2 I/O (197) (io), G3 I/O (185) (io), G4 I/O (203) (io), G5 I/O (209) (io), H2 I/O (206) (io), H3 I/O, VREF (200) (io), H4 I/O (212) (io)
part I pins: B8 GCK3 (73) (in), C9 GCK2 (72) (in), N8 GCK0 (366) (in), R8 GCK1 (365) (in)
part J pins: A15 TDI (io), B14 TDO (io), C4 TCK (io), D3 TMS (io), D15 CCLK (587) (io), N3 M0 (291) (in), P2 M1 (290) (in), P4 NC, P15 PROGRAM (442) (in), R3 M2 (292) (in), R4 NC, R14 DONE (439) (io)
part K pins: C3 VCCINT (power), C14 VCCINT (power), D4 VCCINT (power), D13 VCCINT (power), E5 VCCINT (power), E8 VCCO Bank 0 (power), E9 VCCO Bank 1 (power), E12 VCCINT (power), F8 VCCO Bank 0 (power), F9 VCCO Bank 1 (power), H5 VCCO Bank 7 (power), H6 VCCO Bank 7 (power), H11 VCCO Bank 2 (power), H12 VCCO Bank 2 (power), J5 VCCO Bank 6 (power), J6 VCCO Bank 6 (power), J11 VCCO Bank 3 (power), J12 VCCO Bank 3 (power), L8 VCCO Bank 5 (power), L9 VCCO Bank 4 (power), M5 VCCINT (power), M8 VCCO Bank 5 (power), M9 VCCO Bank 4 (power), M12 VCCINT (power), N4 VCCINT (power), N13 VCCINT (power), P3 VCCINT (power), P14 VCCINT (power)
part L pins: A1 GND (power), A16 GND (power), B2 GND (power), B15 GND (power), F6 GND (power), F7 GND (power), F10 GND (power), F11 GND (power), G6 GND (power), G7 GND (power), G8 GND (power), G9 GND (power), G10 GND (power), G11 GND (power), H7 GND (power), H8 GND (power), H9 GND (power), H10 GND (power), J7 GND (power), J8 GND (power), J9 GND (power), J10 GND (power), K6 GND (power), K7 GND (power), K8 GND (power), K9 GND (power), K10 GND (power), K11 GND (power), L6 GND (power), L7 GND (power), L10 GND (power), L11 GND (power), R2 GND (power), R15 GND (power), T1 GND (power), T16 GND (power)
part A text: BANK 0
part B text: BANK 1
part C text: BANK 2
part D text: BANK 3
part E text: BANK 4
part F text: BANK 5
part G text: BANK 6
part H text: BANK 7

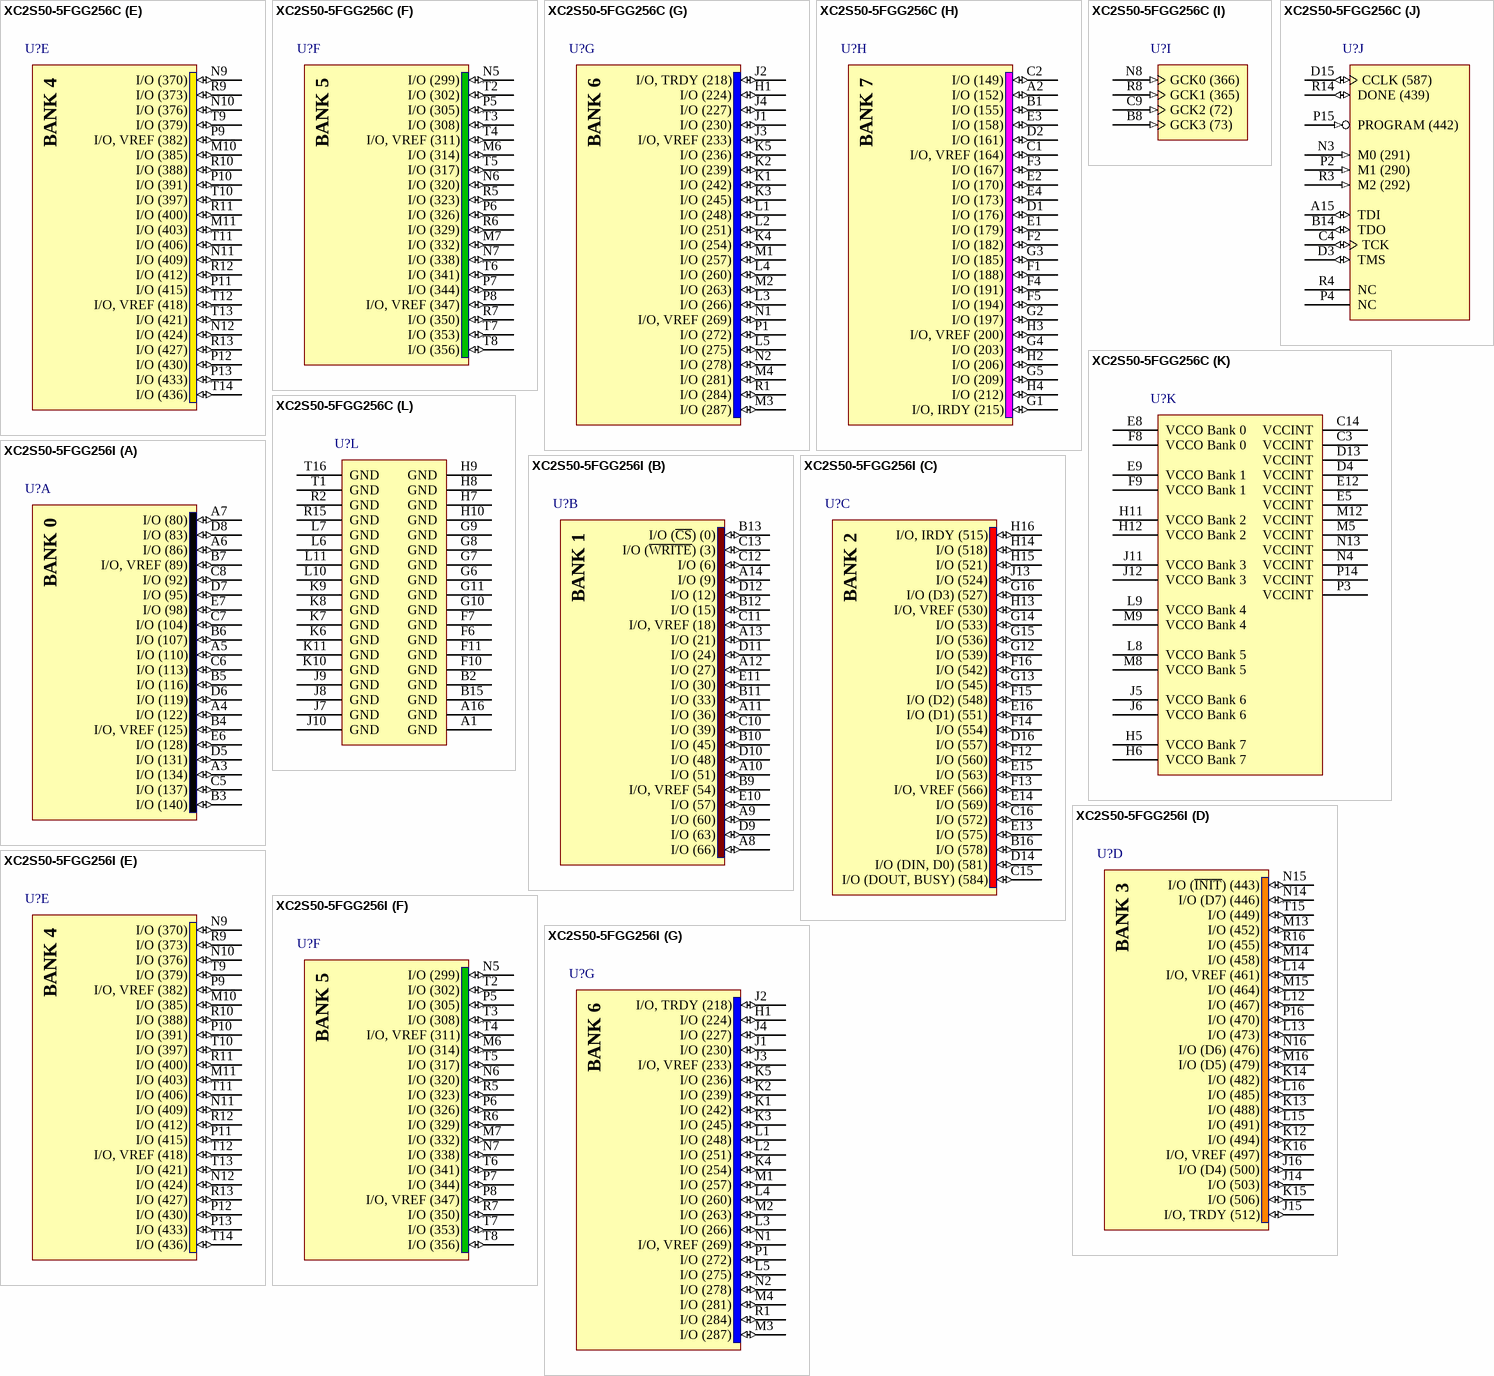
[diagram p19: symbols XC2S50-5FGG256C to XC2S50-5FGG256I]

## XC2S50-5FGG256C
designator U?
Spartan-II 2.5V FPGA, 256-Ball FBGA, Standard Performance, Commercial Grade, Pb-Free; Published: 2-Mar-2006; DatasheetVersion: Aug-2004; PackageVersion: ver1.2.1, Apr-2005; PackageReference: FGG256; Publisher: Altium Limited; PackageDescription: 256-Ball Fine Pitch Ball Grid Array (FGG256) - Pb-Free; Code_JEDEC: MO-151-AAF-1; Code_IPC: BGA100P16X16-256; ComponentLink1Description: Manufacturer Link; ComponentLink1URL: http://www.xilinx.com/products/silicon_solutions/fpgas/spartan_series/spartan2_fpgas/index.htm; ComponentLink2Description: Datasheet; ComponentLink2URL: http://direct.xilinx.com/bvdocs/publications/ds001.pdf
footprint FGG256 (BGA, 256-Leads, Body 17x17mm, Pitch 1mm)
3D model XC2S50-FG256 (256-Ball Fine Pitch Ball Grid Array (FGG256) - Pb-Free)
signal-integrity model XC2S50_FGG256 (Spartan-II)
part A pins: A3 I/O (134) (io), A4 I/O (122) (io), A5 I/O (110) (io), A6 I/O (86) (io), A7 I/O (80) (io), B3 I/O (140) (io), B4 I/O, VREF (125) (io), B5 I/O (116) (io), B6 I/O (107) (io), B7 I/O, VREF (89) (io), C5 I/O (137) (io), C6 I/O (113) (io), C7 I/O (104) (io), C8 I/O (92) (io), D5 I/O (131) (io), D6 I/O (119) (io), D7 I/O (95) (io), D8 I/O (83) (io), E6 I/O (128) (io), E7 I/O (98) (io)
part B pins: A8 I/O (66) (io), A9 I/O (60) (io), A10 I/O (51) (io), A11 I/O (36) (io), A12 I/O (27) (io), A13 I/O (21) (io), A14 I/O (9) (io), B9 I/O, VREF (54) (io), B10 I/O (45) (io), B11 I/O (33) (io), B12 I/O (15) (io), B13 I/O (~{CS}) (0) (io), C10 I/O (39) (io), C11 I/O, VREF (18) (io), C12 I/O (6) (io), C13 I/O (~{WRITE}) (3) (io), D9 I/O (63) (io), D10 I/O (48) (io), D11 I/O (24) (io), D12 I/O (12) (io), E10 I/O (57) (io), E11 I/O (30) (io)
part C pins: B16 I/O (578) (io), C15 I/O (DOUT, BUSY) (584) (io), C16 I/O (572) (io), D14 I/O (DIN, D0) (581) (io), D16 I/O (557) (io), E13 I/O (575) (io), E14 I/O (569) (io), E15 I/O (563) (io), E16 I/O (D1) (551) (io), F12 I/O (560) (io), F13 I/O, VREF (566) (io), F14 I/O (554) (io), F15 I/O (D2) (548) (io), F16 I/O (542) (io), G12 I/O (539) (io), G13 I/O (545) (io), G14 I/O (533) (io), G15 I/O (536) (io), G16 I/O (D3) (527) (io), H13 I/O, VREF (530) (io), H14 I/O (518) (io), H15 I/O (521) (io), H16 I/O, IRDY (515) (io), J13 I/O (524) (io)
part D pins: J14 I/O (503) (io), J15 I/O, TRDY (512) (io), J16 I/O (D4) (500) (io), K12 I/O (494) (io), K13 I/O (488) (io), K14 I/O (482) (io), K15 I/O (506) (io), K16 I/O, VREF (497) (io), L12 I/O (467) (io), L13 I/O (473) (io), L14 I/O, VREF (461) (io), L15 I/O (491) (io), L16 I/O (485) (io), M13 I/O (452) (io), M14 I/O (458) (io), M15 I/O (464) (io), M16 I/O (D5) (479) (io), N14 I/O (D7) (446) (io), N15 I/O (~{INIT}) (443) (io), N16 I/O (D6) (476) (io), P16 I/O (470) (io), R16 I/O (455) (io), T15 I/O (449) (io)
part E pins: M10 I/O (385) (io), M11 I/O (403) (io), N9 I/O (370) (io), N10 I/O (376) (io), N11 I/O (409) (io), N12 I/O (424) (io), P9 I/O, VREF (382) (io), P10 I/O (391) (io), P11 I/O (415) (io), P12 I/O (430) (io), P13 I/O (433) (io), R9 I/O (373) (io), R10 I/O (388) (io), R11 I/O (400) (io), R12 I/O (412) (io), R13 I/O (427) (io), T9 I/O (379) (io), T10 I/O (397) (io), T11 I/O (406) (io), T12 I/O, VREF (418) (io), T13 I/O (421) (io), T14 I/O (436) (io)
part F pins: M6 I/O (314) (io), M7 I/O (332) (io), N5 I/O (299) (io), N6 I/O (320) (io), N7 I/O (338) (io), P5 I/O (305) (io), P6 I/O (326) (io), P7 I/O (344) (io), P8 I/O, VREF (347) (io), R5 I/O (323) (io), R6 I/O (329) (io), R7 I/O (350) (io), T2 I/O (302) (io), T3 I/O (308) (io), T4 I/O, VREF (311) (io), T5 I/O (317) (io), T6 I/O (341) (io), T7 I/O (353) (io), T8 I/O (356) (io)
part G pins: H1 I/O (224) (io), J1 I/O (230) (io), J2 I/O, TRDY (218) (io), J3 I/O, VREF (233) (io), J4 I/O (227) (io), K1 I/O (242) (io), K2 I/O (239) (io), K3 I/O (245) (io), K4 I/O (254) (io), K5 I/O (236) (io), L1 I/O (248) (io), L2 I/O (251) (io), L3 I/O (266) (io), L4 I/O (260) (io), L5 I/O (275) (io), M1 I/O (257) (io), M2 I/O (263) (io), M3 I/O (287) (io), M4 I/O (281) (io), N1 I/O, VREF (269) (io), N2 I/O (278) (io), P1 I/O (272) (io), R1 I/O (284) (io)
part H pins: A2 I/O (152) (io), B1 I/O (155) (io), C1 I/O, VREF (164) (io), C2 I/O (149) (io), D1 I/O (176) (io), D2 I/O (161) (io), E1 I/O (179) (io), E2 I/O (170) (io), E3 I/O (158) (io), E4 I/O (173) (io), F1 I/O (188) (io), F2 I/O (182) (io), F3 I/O (167) (io), F4 I/O (191) (io), F5 I/O (194) (io), G1 I/O, IRDY (215) (io), G2 I/O (197) (io), G3 I/O (185) (io), G4 I/O (203) (io), G5 I/O (209) (io), H2 I/O (206) (io), H3 I/O, VREF (200) (io), H4 I/O (212) (io)
part I pins: B8 GCK3 (73) (in), C9 GCK2 (72) (in), N8 GCK0 (366) (in), R8 GCK1 (365) (in)
part J pins: A15 TDI (io), B14 TDO (io), C4 TCK (io), D3 TMS (io), D15 CCLK (587) (io), N3 M0 (291) (in), P2 M1 (290) (in), P4 NC, P15 PROGRAM (442) (in), R3 M2 (292) (in), R4 NC, R14 DONE (439) (io)
part K pins: C3 VCCINT (power), C14 VCCINT (power), D4 VCCINT (power), D13 VCCINT (power), E5 VCCINT (power), E8 VCCO Bank 0 (power), E9 VCCO Bank 1 (power), E12 VCCINT (power), F8 VCCO Bank 0 (power), F9 VCCO Bank 1 (power), H5 VCCO Bank 7 (power), H6 VCCO Bank 7 (power), H11 VCCO Bank 2 (power), H12 VCCO Bank 2 (power), J5 VCCO Bank 6 (power), J6 VCCO Bank 6 (power), J11 VCCO Bank 3 (power), J12 VCCO Bank 3 (power), L8 VCCO Bank 5 (power), L9 VCCO Bank 4 (power), M5 VCCINT (power), M8 VCCO Bank 5 (power), M9 VCCO Bank 4 (power), M12 VCCINT (power), N4 VCCINT (power), N13 VCCINT (power), P3 VCCINT (power), P14 VCCINT (power)
part L pins: A1 GND (power), A16 GND (power), B2 GND (power), B15 GND (power), F6 GND (power), F7 GND (power), F10 GND (power), F11 GND (power), G6 GND (power), G7 GND (power), G8 GND (power), G9 GND (power), G10 GND (power), G11 GND (power), H7 GND (power), H8 GND (power), H9 GND (power), H10 GND (power), J7 GND (power), J8 GND (power), J9 GND (power), J10 GND (power), K6 GND (power), K7 GND (power), K8 GND (power), K9 GND (power), K10 GND (power), K11 GND (power), L6 GND (power), L7 GND (power), L10 GND (power), L11 GND (power), R2 GND (power), R15 GND (power), T1 GND (power), T16 GND (power)
part A text: BANK 0
part B text: BANK 1
part C text: BANK 2
part D text: BANK 3
part E text: BANK 4
part F text: BANK 5
part G text: BANK 6
part H text: BANK 7

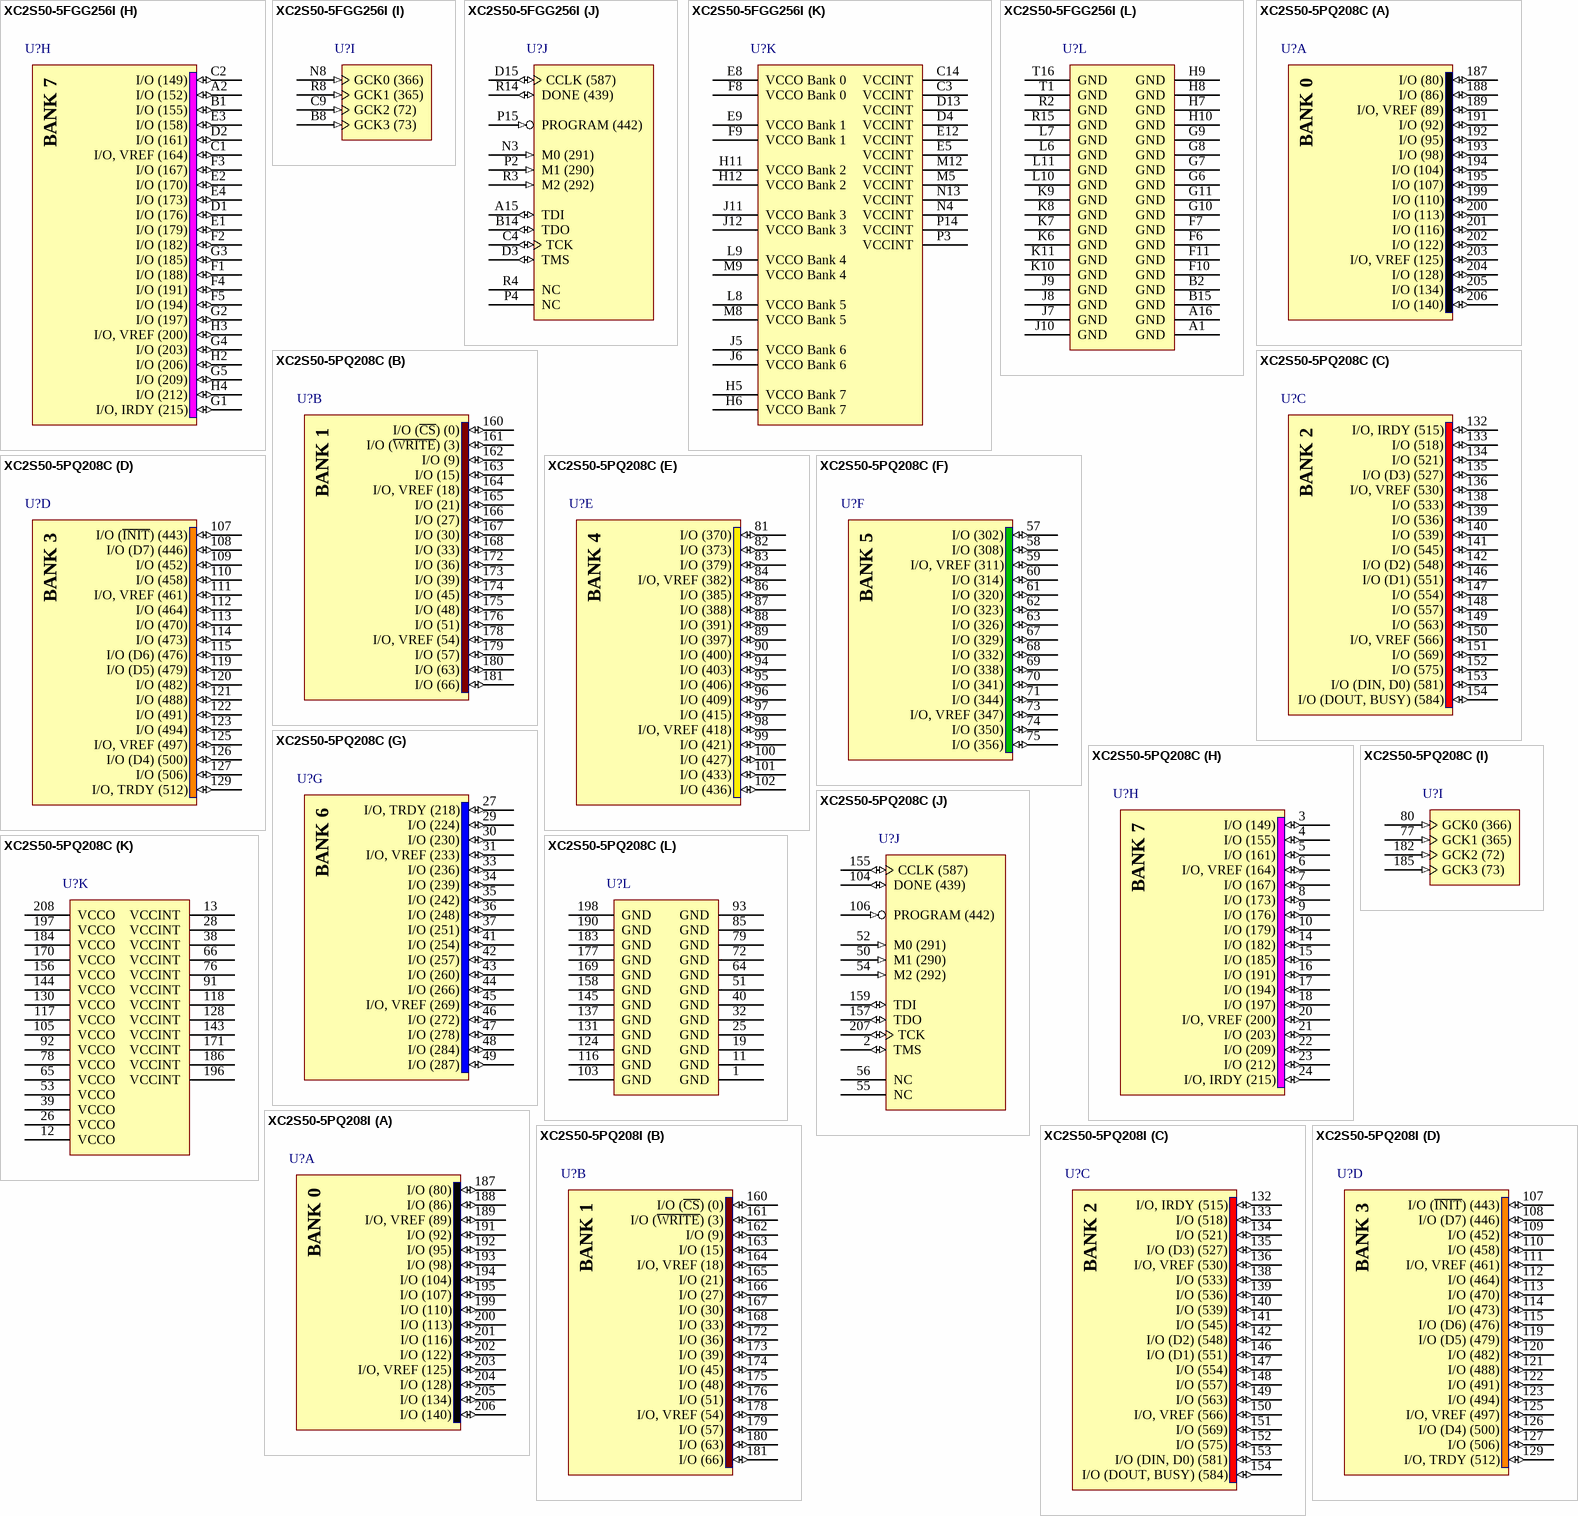
[diagram p20: symbols XC2S50-5FGG256I to XC2S50-5PQ208I]

## XC2S50-5FGG256I
designator U?
Spartan-II 2.5V FPGA, 256-Ball FBGA, Standard Performance, Industrial Grade, Pb-Free; Published: 2-Mar-2006; DatasheetVersion: Aug-2004; PackageVersion: ver1.2.1, Apr-2005; PackageReference: FGG256; Publisher: Altium Limited; PackageDescription: 256-Ball Fine Pitch Ball Grid Array (FGG256) - Pb-Free; Code_JEDEC: MO-151-AAF-1; Code_IPC: BGA100P16X16-256; ComponentLink1Description: Manufacturer Link; ComponentLink1URL: http://www.xilinx.com/products/silicon_solutions/fpgas/spartan_series/spartan2_fpgas/index.htm; ComponentLink2Description: Datasheet; ComponentLink2URL: http://direct.xilinx.com/bvdocs/publications/ds001.pdf
footprint FGG256 (BGA, 256-Leads, Body 17x17mm, Pitch 1mm)
3D model XC2S50-FG256 (256-Ball Fine Pitch Ball Grid Array (FGG256) - Pb-Free)
signal-integrity model XC2S50_FGG256 (Spartan-II)
part A pins: A3 I/O (134) (io), A4 I/O (122) (io), A5 I/O (110) (io), A6 I/O (86) (io), A7 I/O (80) (io), B3 I/O (140) (io), B4 I/O, VREF (125) (io), B5 I/O (116) (io), B6 I/O (107) (io), B7 I/O, VREF (89) (io), C5 I/O (137) (io), C6 I/O (113) (io), C7 I/O (104) (io), C8 I/O (92) (io), D5 I/O (131) (io), D6 I/O (119) (io), D7 I/O (95) (io), D8 I/O (83) (io), E6 I/O (128) (io), E7 I/O (98) (io)
part B pins: A8 I/O (66) (io), A9 I/O (60) (io), A10 I/O (51) (io), A11 I/O (36) (io), A12 I/O (27) (io), A13 I/O (21) (io), A14 I/O (9) (io), B9 I/O, VREF (54) (io), B10 I/O (45) (io), B11 I/O (33) (io), B12 I/O (15) (io), B13 I/O (~{CS}) (0) (io), C10 I/O (39) (io), C11 I/O, VREF (18) (io), C12 I/O (6) (io), C13 I/O (~{WRITE}) (3) (io), D9 I/O (63) (io), D10 I/O (48) (io), D11 I/O (24) (io), D12 I/O (12) (io), E10 I/O (57) (io), E11 I/O (30) (io)
part C pins: B16 I/O (578) (io), C15 I/O (DOUT, BUSY) (584) (io), C16 I/O (572) (io), D14 I/O (DIN, D0) (581) (io), D16 I/O (557) (io), E13 I/O (575) (io), E14 I/O (569) (io), E15 I/O (563) (io), E16 I/O (D1) (551) (io), F12 I/O (560) (io), F13 I/O, VREF (566) (io), F14 I/O (554) (io), F15 I/O (D2) (548) (io), F16 I/O (542) (io), G12 I/O (539) (io), G13 I/O (545) (io), G14 I/O (533) (io), G15 I/O (536) (io), G16 I/O (D3) (527) (io), H13 I/O, VREF (530) (io), H14 I/O (518) (io), H15 I/O (521) (io), H16 I/O, IRDY (515) (io), J13 I/O (524) (io)
part D pins: J14 I/O (503) (io), J15 I/O, TRDY (512) (io), J16 I/O (D4) (500) (io), K12 I/O (494) (io), K13 I/O (488) (io), K14 I/O (482) (io), K15 I/O (506) (io), K16 I/O, VREF (497) (io), L12 I/O (467) (io), L13 I/O (473) (io), L14 I/O, VREF (461) (io), L15 I/O (491) (io), L16 I/O (485) (io), M13 I/O (452) (io), M14 I/O (458) (io), M15 I/O (464) (io), M16 I/O (D5) (479) (io), N14 I/O (D7) (446) (io), N15 I/O (~{INIT}) (443) (io), N16 I/O (D6) (476) (io), P16 I/O (470) (io), R16 I/O (455) (io), T15 I/O (449) (io)
part E pins: M10 I/O (385) (io), M11 I/O (403) (io), N9 I/O (370) (io), N10 I/O (376) (io), N11 I/O (409) (io), N12 I/O (424) (io), P9 I/O, VREF (382) (io), P10 I/O (391) (io), P11 I/O (415) (io), P12 I/O (430) (io), P13 I/O (433) (io), R9 I/O (373) (io), R10 I/O (388) (io), R11 I/O (400) (io), R12 I/O (412) (io), R13 I/O (427) (io), T9 I/O (379) (io), T10 I/O (397) (io), T11 I/O (406) (io), T12 I/O, VREF (418) (io), T13 I/O (421) (io), T14 I/O (436) (io)
part F pins: M6 I/O (314) (io), M7 I/O (332) (io), N5 I/O (299) (io), N6 I/O (320) (io), N7 I/O (338) (io), P5 I/O (305) (io), P6 I/O (326) (io), P7 I/O (344) (io), P8 I/O, VREF (347) (io), R5 I/O (323) (io), R6 I/O (329) (io), R7 I/O (350) (io), T2 I/O (302) (io), T3 I/O (308) (io), T4 I/O, VREF (311) (io), T5 I/O (317) (io), T6 I/O (341) (io), T7 I/O (353) (io), T8 I/O (356) (io)
part G pins: H1 I/O (224) (io), J1 I/O (230) (io), J2 I/O, TRDY (218) (io), J3 I/O, VREF (233) (io), J4 I/O (227) (io), K1 I/O (242) (io), K2 I/O (239) (io), K3 I/O (245) (io), K4 I/O (254) (io), K5 I/O (236) (io), L1 I/O (248) (io), L2 I/O (251) (io), L3 I/O (266) (io), L4 I/O (260) (io), L5 I/O (275) (io), M1 I/O (257) (io), M2 I/O (263) (io), M3 I/O (287) (io), M4 I/O (281) (io), N1 I/O, VREF (269) (io), N2 I/O (278) (io), P1 I/O (272) (io), R1 I/O (284) (io)
part H pins: A2 I/O (152) (io), B1 I/O (155) (io), C1 I/O, VREF (164) (io), C2 I/O (149) (io), D1 I/O (176) (io), D2 I/O (161) (io), E1 I/O (179) (io), E2 I/O (170) (io), E3 I/O (158) (io), E4 I/O (173) (io), F1 I/O (188) (io), F2 I/O (182) (io), F3 I/O (167) (io), F4 I/O (191) (io), F5 I/O (194) (io), G1 I/O, IRDY (215) (io), G2 I/O (197) (io), G3 I/O (185) (io), G4 I/O (203) (io), G5 I/O (209) (io), H2 I/O (206) (io), H3 I/O, VREF (200) (io), H4 I/O (212) (io)
part I pins: B8 GCK3 (73) (in), C9 GCK2 (72) (in), N8 GCK0 (366) (in), R8 GCK1 (365) (in)
part J pins: A15 TDI (io), B14 TDO (io), C4 TCK (io), D3 TMS (io), D15 CCLK (587) (io), N3 M0 (291) (in), P2 M1 (290) (in), P4 NC, P15 PROGRAM (442) (in), R3 M2 (292) (in), R4 NC, R14 DONE (439) (io)
part K pins: C3 VCCINT (power), C14 VCCINT (power), D4 VCCINT (power), D13 VCCINT (power), E5 VCCINT (power), E8 VCCO Bank 0 (power), E9 VCCO Bank 1 (power), E12 VCCINT (power), F8 VCCO Bank 0 (power), F9 VCCO Bank 1 (power), H5 VCCO Bank 7 (power), H6 VCCO Bank 7 (power), H11 VCCO Bank 2 (power), H12 VCCO Bank 2 (power), J5 VCCO Bank 6 (power), J6 VCCO Bank 6 (power), J11 VCCO Bank 3 (power), J12 VCCO Bank 3 (power), L8 VCCO Bank 5 (power), L9 VCCO Bank 4 (power), M5 VCCINT (power), M8 VCCO Bank 5 (power), M9 VCCO Bank 4 (power), M12 VCCINT (power), N4 VCCINT (power), N13 VCCINT (power), P3 VCCINT (power), P14 VCCINT (power)
part L pins: A1 GND (power), A16 GND (power), B2 GND (power), B15 GND (power), F6 GND (power), F7 GND (power), F10 GND (power), F11 GND (power), G6 GND (power), G7 GND (power), G8 GND (power), G9 GND (power), G10 GND (power), G11 GND (power), H7 GND (power), H8 GND (power), H9 GND (power), H10 GND (power), J7 GND (power), J8 GND (power), J9 GND (power), J10 GND (power), K6 GND (power), K7 GND (power), K8 GND (power), K9 GND (power), K10 GND (power), K11 GND (power), L6 GND (power), L7 GND (power), L10 GND (power), L11 GND (power), R2 GND (power), R15 GND (power), T1 GND (power), T16 GND (power)
part A text: BANK 0
part B text: BANK 1
part C text: BANK 2
part D text: BANK 3
part E text: BANK 4
part F text: BANK 5
part G text: BANK 6
part H text: BANK 7

## XC2S50-5PQ208C
designator U?
Spartan-II 2.5V FPGA, 208-Pin PQFP, Standard Performance, Commercial Grade; Published: 13-Jul-2001; LatestRevisionDate: 13-Apr-2006; LatestRevisionNote: IPC-7351 Footprint Added.; DatasheetVersion: Aug-2004; PackageVersion: ver1.2, Jun-2004; PackageReference: PQ208; Publisher: Altium Limited; PackageDescription: 208-Pin Plastic Quad Flat Pack (PQ208); Code_JEDEC: MS-029-FA-1; ComponentLink1Description: Manufacturer Link; ComponentLink1URL: http://www.xilinx.com/products/silicon_solutions/fpgas/spartan_series/spartan2_fpgas/index.htm; ComponentLink2Description: Datasheet; ComponentLink2URL: http://direct.xilinx.com/bvdocs/publications/ds001.pdf
footprint PQ208_N (Shrink QFP, 208-Leads, Body 28x28mm, Pitch 0.5mm, IPC Medium Density)
footprint PQ208_L (Shrink QFP, 208-Leads, Body 28x28mm, Pitch 0.5mm, IPC High Density)
footprint PQ208_M (Shrink QFP, 208-Leads, Body 28x28mm, Pitch 0.5mm, IPC Low Density)
3D model XC2S50-PQ208 (208-Pin Plastic Quad Flat Pack (PQ208))
signal-integrity model XC2S50_PQ208 (Spartan-II)
part A pins: 187 I/O (80) (io), 188 I/O (86) (io), 189 I/O, VREF (89) (io), 191 I/O (92) (io), 192 I/O (95) (io), 193 I/O (98) (io), 194 I/O (104) (io), 195 I/O (107) (io), 199 I/O (110) (io), 200 I/O (113) (io), 201 I/O (116) (io), 202 I/O (122) (io), 203 I/O, VREF (125) (io), 204 I/O (128) (io), 205 I/O (134) (io), 206 I/O (140) (io)
part B pins: 160 I/O (~{CS}) (0) (io), 161 I/O (~{WRITE}) (3) (io), 162 I/O (9) (io), 163 I/O (15) (io), 164 I/O, VREF (18) (io), 165 I/O (21) (io), 166 I/O (27) (io), 167 I/O (30) (io), 168 I/O (33) (io), 172 I/O (36) (io), 173 I/O (39) (io), 174 I/O (45) (io), 175 I/O (48) (io), 176 I/O (51) (io), 178 I/O, VREF (54) (io), 179 I/O (57) (io), 180 I/O (63) (io), 181 I/O (66) (io)
part C pins: 132 I/O, IRDY (515) (io), 133 I/O (518) (io), 134 I/O (521) (io), 135 I/O (D3) (527) (io), 136 I/O, VREF (530) (io), 138 I/O (533) (io), 139 I/O (536) (io), 140 I/O (539) (io), 141 I/O (545) (io), 142 I/O (D2) (548) (io), 146 I/O (D1) (551) (io), 147 I/O (554) (io), 148 I/O (557) (io), 149 I/O (563) (io), 150 I/O, VREF (566) (io), 151 I/O (569) (io), 152 I/O (575) (io), 153 I/O (DIN, D0) (581) (io), 154 I/O (DOUT, BUSY) (584) (io)
part D pins: 107 I/O (~{INIT}) (443) (io), 108 I/O (D7) (446) (io), 109 I/O (452) (io), 110 I/O (458) (io), 111 I/O, VREF (461) (io), 112 I/O (464) (io), 113 I/O (470) (io), 114 I/O (473) (io), 115 I/O (D6) (476) (io), 119 I/O (D5) (479) (io), 120 I/O (482) (io), 121 I/O (488) (io), 122 I/O (491) (io), 123 I/O (494) (io), 125 I/O, VREF (497) (io), 126 I/O (D4) (500) (io), 127 I/O (506) (io), 129 I/O, TRDY (512) (io)
part E pins: 81 I/O (370) (io), 82 I/O (373) (io), 83 I/O (379) (io), 84 I/O, VREF (382) (io), 86 I/O (385) (io), 87 I/O (388) (io), 88 I/O (391) (io), 89 I/O (397) (io), 90 I/O (400) (io), 94 I/O (403) (io), 95 I/O (406) (io), 96 I/O (409) (io), 97 I/O (415) (io), 98 I/O, VREF (418) (io), 99 I/O (421) (io), 100 I/O (427) (io), 101 I/O (433) (io), 102 I/O (436) (io)
part F pins: 57 I/O (302) (io), 58 I/O (308) (io), 59 I/O, VREF (311) (io), 60 I/O (314) (io), 61 I/O (320) (io), 62 I/O (323) (io), 63 I/O (326) (io), 67 I/O (329) (io), 68 I/O (332) (io), 69 I/O (338) (io), 70 I/O (341) (io), 71 I/O (344) (io), 73 I/O, VREF (347) (io), 74 I/O (350) (io), 75 I/O (356) (io)
part G pins: 27 I/O, TRDY (218) (io), 29 I/O (224) (io), 30 I/O (230) (io), 31 I/O, VREF (233) (io), 33 I/O (236) (io), 34 I/O (239) (io), 35 I/O (242) (io), 36 I/O (248) (io), 37 I/O (251) (io), 41 I/O (254) (io), 42 I/O (257) (io), 43 I/O (260) (io), 44 I/O (266) (io), 45 I/O, VREF (269) (io), 46 I/O (272) (io), 47 I/O (278) (io), 48 I/O (284) (io), 49 I/O (287) (io)
part H pins: 3 I/O (149) (io), 4 I/O (155) (io), 5 I/O (161) (io), 6 I/O, VREF (164) (io), 7 I/O (167) (io), 8 I/O (173) (io), 9 I/O (176) (io), 10 I/O (179) (io), 14 I/O (182) (io), 15 I/O (185) (io), 16 I/O (191) (io), 17 I/O (194) (io), 18 I/O (197) (io), 20 I/O, VREF (200) (io), 21 I/O (203) (io), 22 I/O (209) (io), 23 I/O (212) (io), 24 I/O, IRDY (215) (io)
part I pins: 77 GCK1 (365) (in), 80 GCK0 (366) (in), 182 GCK2 (72) (in), 185 GCK3 (73) (in)
part J pins: 2 TMS (io), 50 M1 (290) (in), 52 M0 (291) (in), 54 M2 (292) (in), 55 NC, 56 NC, 104 DONE (439) (io), 106 PROGRAM (442) (in), 155 CCLK (587) (io), 157 TDO (io), 159 TDI (io), 207 TCK (io)
part K pins: 12 VCCO (power), 13 VCCINT (power), 26 VCCO (power), 28 VCCINT (power), 38 VCCINT (power), 39 VCCO (power), 53 VCCO (power), 65 VCCO (power), 66 VCCINT (power), 76 VCCINT (power), 78 VCCO (power), 91 VCCINT (power), 92 VCCO (power), 105 VCCO (power), 117 VCCO (power), 118 VCCINT (power), 128 VCCINT (power), 130 VCCO (power), 143 VCCINT (power), 144 VCCO (power), 156 VCCO (power), 170 VCCO (power), 171 VCCINT (power), 184 VCCO (power), 186 VCCINT (power), 196 VCCINT (power), 197 VCCO (power), 208 VCCO (power)
part L pins: 1 GND (power), 11 GND (power), 19 GND (power), 25 GND (power), 32 GND (power), 40 GND (power), 51 GND (power), 64 GND (power), 72 GND (power), 79 GND (power), 85 GND (power), 93 GND (power), 103 GND (power), 116 GND (power), 124 GND (power), 131 GND (power), 137 GND (power), 145 GND (power), 158 GND (power), 169 GND (power), 177 GND (power), 183 GND (power), 190 GND (power), 198 GND (power)
part A text: BANK 0
part B text: BANK 1
part C text: BANK 2
part D text: BANK 3
part E text: BANK 4
part F text: BANK 5
part G text: BANK 6
part H text: BANK 7

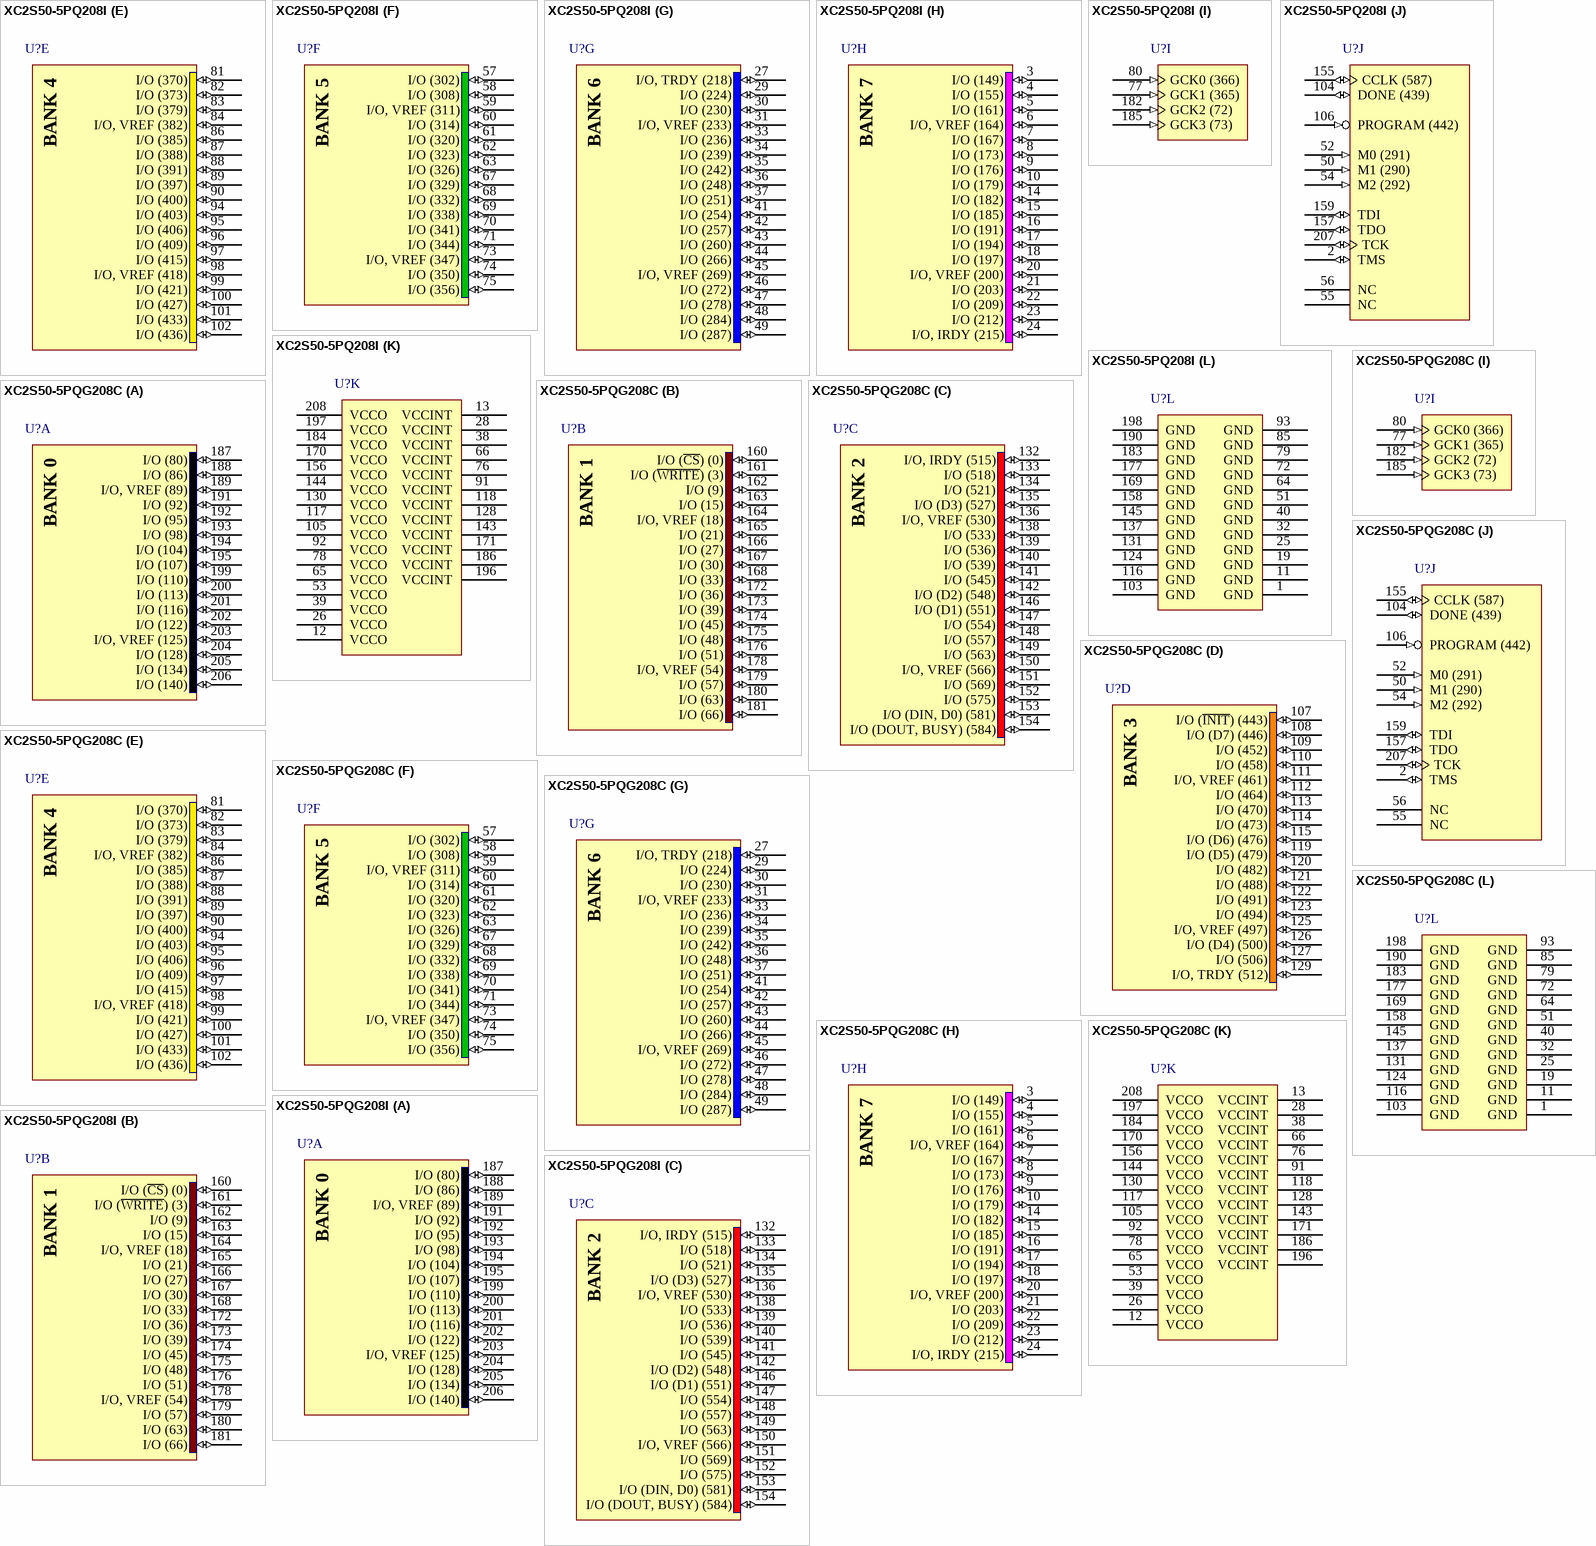
[diagram p21: symbols XC2S50-5PQ208I to XC2S50-5PQG208I]